# Altium integrated library Protel DOS Schematic Libraries.IntLib: 1273 symbols (part 2 of 9)
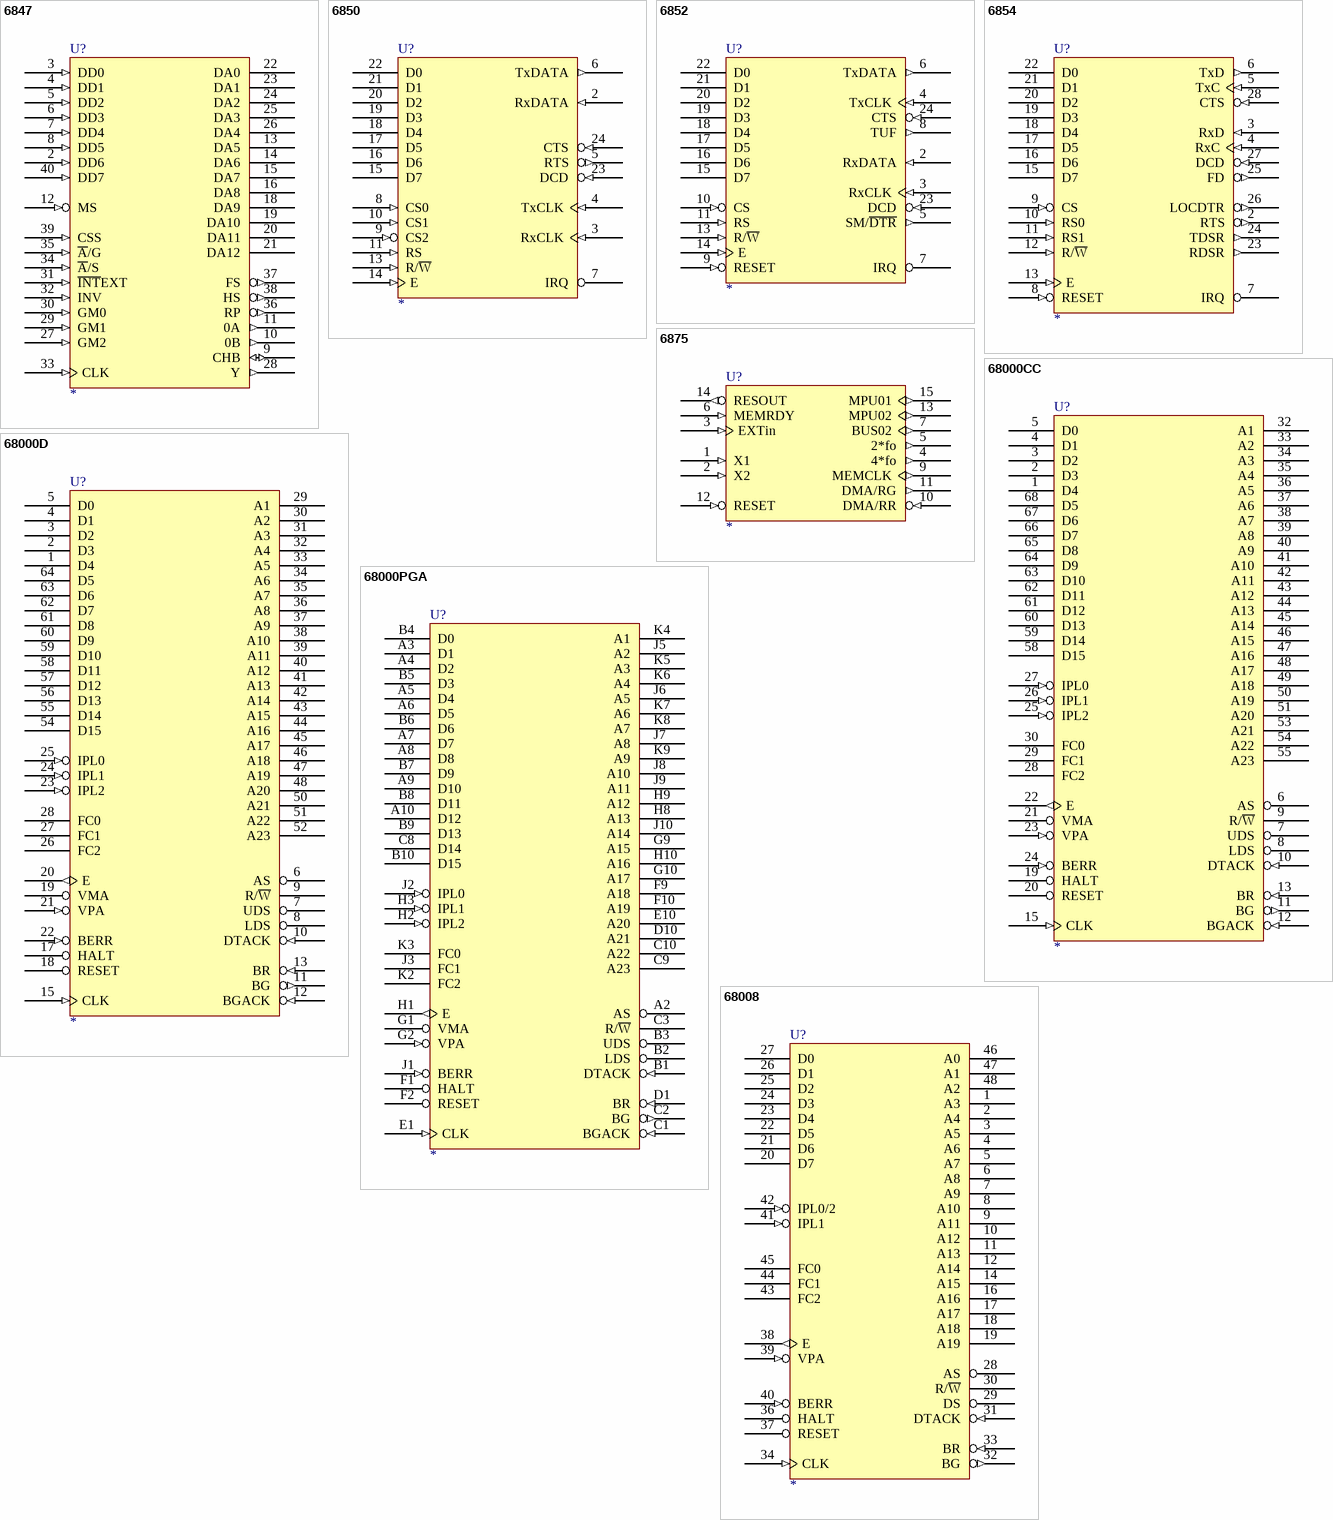
[diagram p70: symbols 6847 to 68008]

## 68000CC
designator U?
footprint JEDECA-68
pins: 1 D4 (hiz), 2 D3 (hiz), 3 D2 (hiz), 4 D1 (hiz), 5 D0 (hiz), 6 AS (hiz), 7 UDS (hiz), 8 LDS (hiz), 9 R/~{W} (hiz), 10 DTACK (in), 11 BG (out), 12 BGACK (in), 13 BR (in), 14 VCC (power) hidden to VCC, 15 CLK (in), 16 GND (power) hidden to GND, 17 GND (power) hidden to GND, 19 HALT (oc), 20 RESET (oc), 21 VMA (hiz), 22 E (out), 23 VPA (in), 24 BERR (in), 25 IPL2 (in), 26 IPL1 (in), 27 IPL0 (in), 28 FC2 (hiz), 29 FC1 (hiz), 30 FC0 (hiz), 32 A1 (hiz), 33 A2 (hiz), 34 A3 (hiz), 35 A4 (hiz), 36 A5 (hiz), 37 A6 (hiz), 38 A7 (hiz), 39 A8 (hiz), 40 A9 (hiz), 41 A10 (hiz), 42 A11 (hiz), 43 A12 (hiz), 44 A13 (hiz), 45 A14 (hiz), 46 A15 (hiz), 47 A16 (hiz), 48 A17 (hiz), 49 A18 (hiz), 50 A19 (hiz), 51 A20 (hiz), 52 VCC (power) hidden to VCC, 53 A21 (hiz), 54 A22 (hiz), 55 A23 (hiz), 56 GND (power) hidden to GND, 57 GND (power) hidden to GND, 58 D15 (hiz), 59 D14 (hiz), 60 D13 (hiz), 61 D12 (hiz), 62 D11 (hiz), 63 D10 (hiz), 64 D9 (hiz), 65 D8 (hiz), 66 D7 (hiz), 67 D6 (hiz), 68 D5 (hiz)

## 68000D
designator U?
footprint DIP-64
pins: 1 D4 (hiz), 2 D3 (hiz), 3 D2 (hiz), 4 D1 (hiz), 5 D0 (hiz), 6 AS (hiz), 7 UDS (hiz), 8 LDS (hiz), 9 R/~{W} (hiz), 10 DTACK (in), 11 BG (out), 12 BGACK (in), 13 BR (in), 14 VCC (power) hidden to VCC, 15 CLK (in), 16 GND (power) hidden to GND, 17 HALT (oc), 18 RESET (oc), 19 VMA (hiz), 20 E (out), 21 VPA (in), 22 BERR (in), 23 IPL2 (in), 24 IPL1 (in), 25 IPL0 (in), 26 FC2 (hiz), 27 FC1 (hiz), 28 FC0 (hiz), 29 A1 (hiz), 30 A2 (hiz), 31 A3 (hiz), 32 A4 (hiz), 33 A5 (hiz), 34 A6 (hiz), 35 A7 (hiz), 36 A8 (hiz), 37 A9 (hiz), 38 A10 (hiz), 39 A11 (hiz), 40 A12 (hiz), 41 A13 (hiz), 42 A14 (hiz), 43 A15 (hiz), 44 A16 (hiz), 45 A17 (hiz), 46 A18 (hiz), 47 A19 (hiz), 48 A20 (hiz), 49 VCC (power) hidden to VCC, 50 A21 (hiz), 51 A22 (hiz), 52 A23 (hiz), 53 GND (power) hidden to GND, 54 D15 (hiz), 55 D14 (hiz), 56 D13 (hiz), 57 D12 (hiz), 58 D11 (hiz), 59 D10 (hiz), 60 D9 (hiz), 61 D8 (hiz), 62 D7 (hiz), 63 D6 (hiz), 64 D5 (hiz)

## 68000PGA
designator U?
footprint PGA68_10X10
pins: A2 AS (hiz), A3 D1 (hiz), A4 D2 (hiz), A5 D4 (hiz), A6 D5 (hiz), A7 D7 (hiz), A8 D8 (hiz), A9 D10 (hiz), A10 D12 (hiz), B1 DTACK (in), B2 LDS (hiz), B3 UDS (hiz), B4 D0 (hiz), B5 D3 (hiz), B6 D6 (hiz), B7 D9 (hiz), B8 D11 (hiz), B9 D13 (hiz), B10 D15 (hiz), C1 BGACK (in), C2 BG (out), C3 R/~{W} (hiz), C8 D14 (hiz), C9 A23 (hiz), C10 A22 (hiz), D1 BR (in), D2 VCC (power) hidden to VCC, D9 GND (power) hidden to GND, D10 A21 (hiz), E1 CLK (in), E2 GND (power) hidden to GND, E9 VCC (power) hidden to VCC, E10 A20 (hiz), F1 HALT (oc), F2 RESET (oc), F9 A18 (hiz), F10 A19 (hiz), G1 VMA (hiz), G2 VPA (in), G9 A15 (hiz), G10 A17 (hiz), H1 E (out), H2 IPL2 (in), H3 IPL1 (in), H8 A13 (hiz), H9 A12 (hiz), H10 A16 (hiz), J1 BERR (in), J2 IPL0 (in), J3 FC1 (hiz), J5 A2 (hiz), J6 A5 (hiz), J7 A8 (hiz), J8 A10 (hiz), J9 A11 (hiz), J10 A14 (hiz), K2 FC2 (hiz), K3 FC0 (hiz), K4 A1 (hiz), K5 A3 (hiz), K6 A4 (hiz), K7 A6 (hiz), K8 A7 (hiz), K9 A9 (hiz)

## 68008
designator U?
footprint DIP-48
pins: 1 A3 (hiz), 2 A4 (hiz), 3 A5 (hiz), 4 A6 (hiz), 5 A7 (hiz), 6 A8 (hiz), 7 A9 (hiz), 8 A10 (hiz), 9 A11 (hiz), 10 A12 (hiz), 11 A13 (hiz), 12 A14 (hiz), 13 VCC (power) hidden to VCC, 14 A15 (hiz), 15 GND (power) hidden to GND, 16 A16 (hiz), 17 A17 (hiz), 18 A18 (hiz), 19 A19 (hiz), 20 D7 (hiz), 21 D6 (hiz), 22 D5 (hiz), 23 D4 (hiz), 24 D3 (hiz), 25 D2 (hiz), 26 D1 (hiz), 27 D0 (hiz), 28 AS (hiz), 29 DS (hiz), 30 R/~{W} (hiz), 31 DTACK (in), 32 BG (out), 33 BR (in), 34 CLK (in), 35 GND (power) hidden to GND, 36 HALT (oc), 37 RESET (oc), 38 E (out), 39 VPA (in), 40 BERR (in), 41 IPL1 (in), 42 IPL0/2 (in), 43 FC2 (hiz), 44 FC1 (hiz), 45 FC0 (hiz), 46 A0 (hiz), 47 A1 (hiz), 48 A2 (hiz)

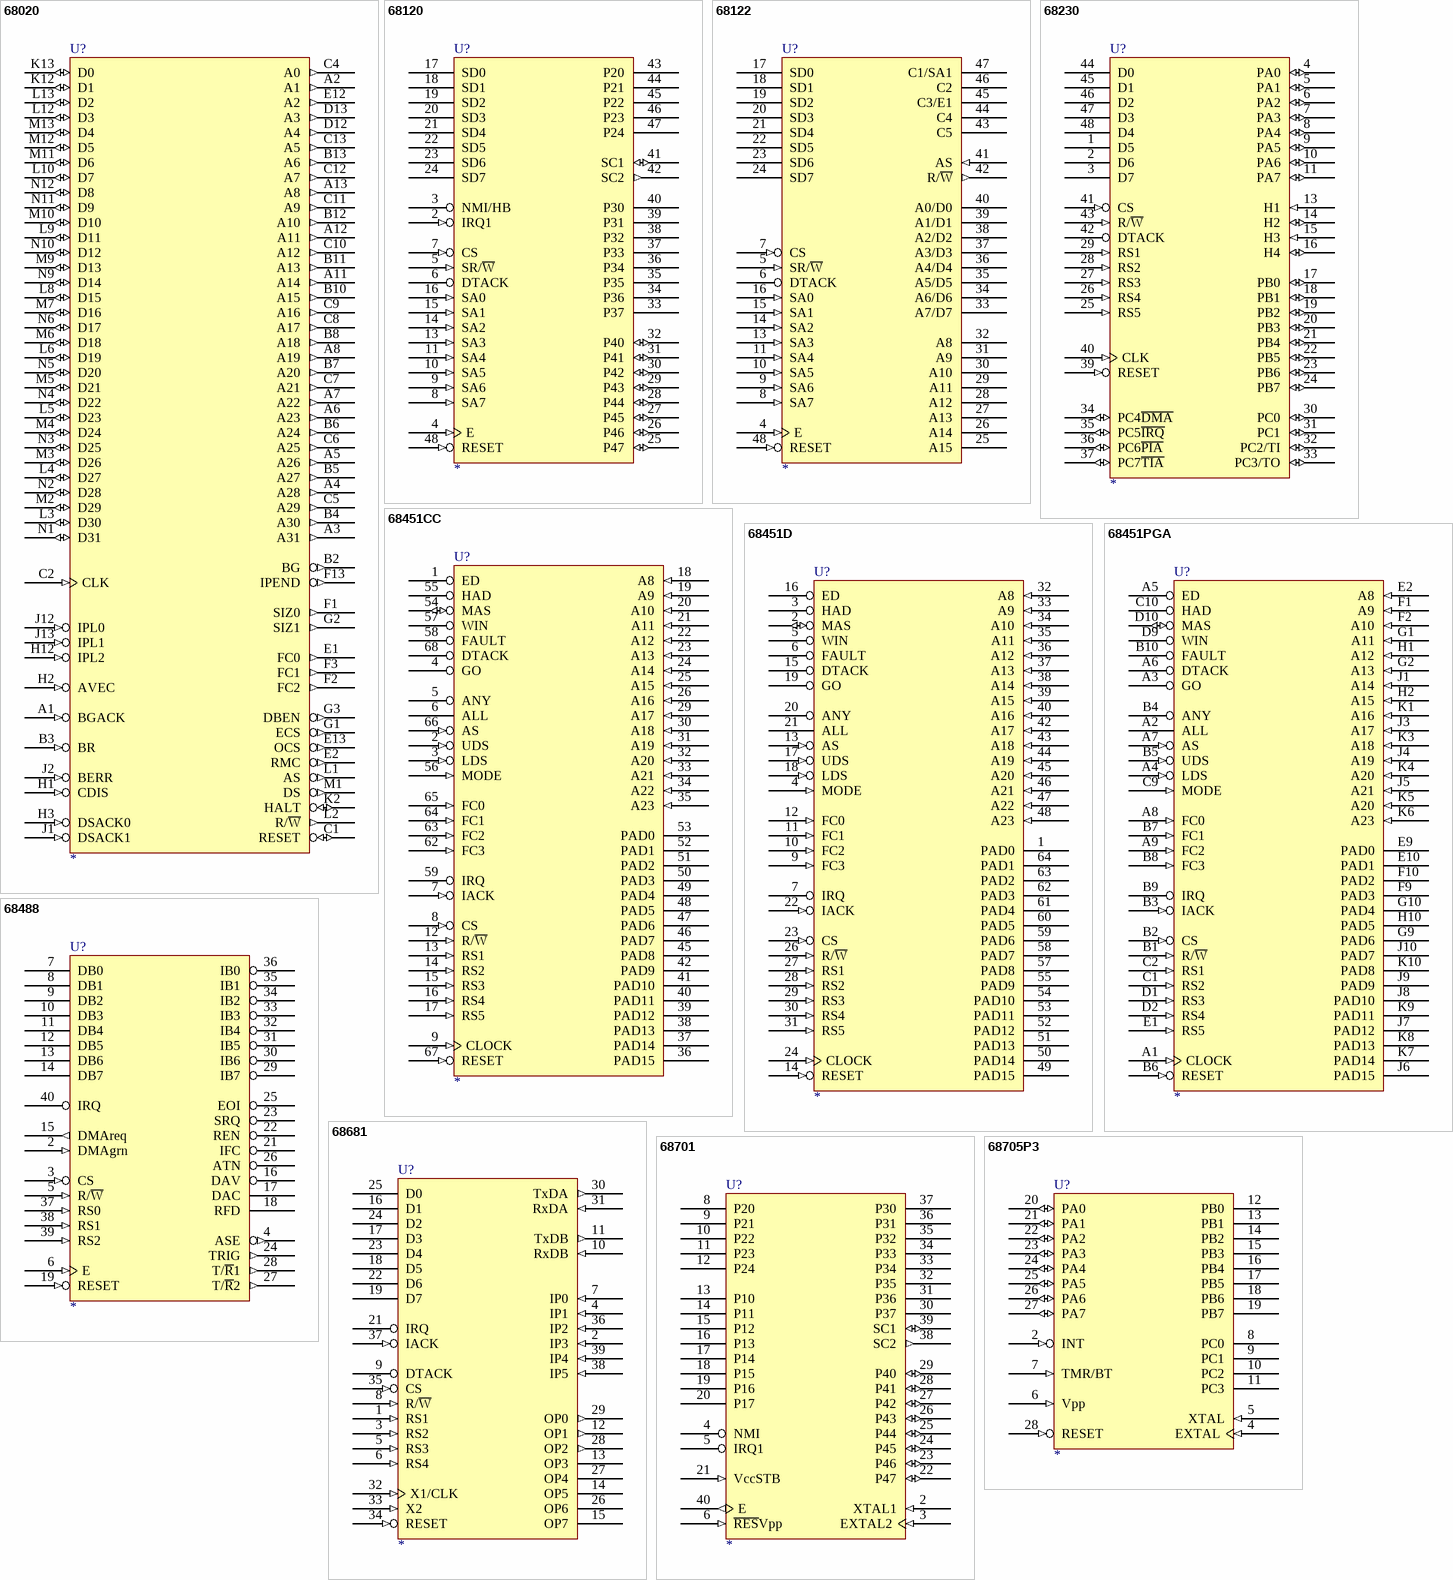
[diagram p10: symbols 68020 to 68705P3]

## 68020
designator U?
footprint PGA68_10X10
pins: A1 BGACK (in), A2 A1 (out), A3 A31 (out), A4 A28 (out), A5 A26 (out), A6 A23 (out), A7 A22 (out), A8 A19 (out), A9 VCC (power) hidden to VCC, A10 GND (power) hidden to GND, A11 A14 (out), A12 A11 (out), A13 A8 (out), B2 BG (out), B3 BR (in), B4 A30 (out), B5 A27 (out), B6 A24 (out), B7 A20 (out), B8 A18 (out), B9 GND (power) hidden to GND, B10 A15 (out), B11 A13 (out), B12 A10 (out), B13 A6 (out), C1 RESET (io), C2 CLK (in), C4 A0 (out), C5 A29 (out), C6 A25 (out), C7 A21 (out), C8 A17 (out), C9 A16 (out), C10 A12 (out), C11 A9 (out), C12 A7 (out), C13 A5 (out), D1 VCC (power) hidden to VCC, D2 VCC (power) hidden to VCC, D12 A4 (out), D13 A3 (out), E1 FC0 (out), E2 RMC (out), E3 VCC (power) hidden to VCC, E12 A2 (out), E13 OCS (out), F1 SIZ0 (out), F2 FC2 (out), F3 FC1 (out), F13 IPEND (out), G1 ECS (out), G2 SIZ1 (out), G3 DBEN (out), G11 VCC (power) hidden to VCC, G12 GND (power) hidden to GND, G13 VCC (power) hidden to VCC, H1 CDIS (in), H2 AVEC (in), H3 DSACK0 (in), H12 IPL2 (in), H13 GND (power) hidden to GND, J1 DSACK1 (in), J2 BERR (in), J3 GND (power) hidden to GND, J12 IPL0 (in), J13 IPL1 (in), K1 GND (power) hidden to GND, K2 HALT (io), K12 D1 (io), K13 D0 (io), L1 AS (out), L2 R/~{W} (out), L3 D30 (io), L4 D27 (io), L5 D23 (io), L6 D19 (io), L7 GND (power) hidden to GND, L8 D15 (io), L9 D11 (io), L10 D7 (io), L12 D3 (io), L13 D2 (io), M1 DS (out), M2 D29 (io), M3 D26 (io), M4 D24 (io), M5 D21 (io), M6 D18 (io), M7 D16 (io), M8 VCC (power) hidden to VCC, M9 D13 (io), M10 D10 (io), M11 D6 (io), M12 D5 (io), M13 D4 (io), N1 D31 (io), N2 D28 (io), N3 D25 (io), N4 D22 (io), N5 D20 (io), N6 D17 (io), N7 GND (power) hidden to GND, N8 VCC (power) hidden to VCC, N9 D14 (io), N10 D12 (io), N11 D9 (io), N12 D8 (io)

## 68120
designator U?
footprint DIP-48
pins: 1 GND (power) hidden to GND, 2 IRQ1 (in), 3 NMI/HB (oc), 4 E (in), 5 SR/~{W} (in), 6 DTACK (oc), 7 CS (in), 8 SA7 (in), 9 SA6 (in), 10 SA5 (in), 11 SA4 (in), 12 VCC (power) hidden to VCC, 13 SA3 (in), 14 SA2 (in), 15 SA1 (in), 16 SA0 (in), 17 SD0 (hiz), 18 SD1 (hiz), 19 SD2 (hiz), 20 SD3 (hiz), 21 SD4 (hiz), 22 SD5 (hiz), 23 SD6 (hiz), 24 SD7 (hiz), 25 P47 (io), 26 P46 (io), 27 P45 (io), 28 P44 (io), 29 P43 (io), 30 P42 (io), 31 P41 (io), 32 P40 (io), 33 P37 (hiz), 34 P36 (hiz), 35 P35 (hiz), 36 P34 (hiz), 37 P33 (hiz), 38 P32 (hiz), 39 P31 (hiz), 40 P30 (hiz), 41 SC1 (io), 42 SC2 (out), 43 P20 (hiz), 44 P21 (hiz), 45 P22 (hiz), 46 P23 (hiz), 47 P24 (hiz), 48 RESET (in)

## 68122
designator U?
footprint DIP-48
pins: 1 GND (power) hidden to GND, 2 VCC (power) hidden to VCC, 3 VCC (power) hidden to VCC, 4 E (in), 5 SR/~{W} (in), 6 DTACK (oc), 7 CS (in), 8 SA7 (in), 9 SA6 (in), 10 SA5 (in), 11 SA4 (in), 12 VCC (power) hidden to VCC, 13 SA3 (in), 14 SA2 (in), 15 SA1 (in), 16 SA0 (in), 17 SD0 (hiz), 18 SD1 (hiz), 19 SD2 (hiz), 20 SD3 (hiz), 21 SD4 (hiz), 22 SD5 (hiz), 23 SD6 (hiz), 24 SD7 (hiz), 25 A15 (hiz), 26 A14 (hiz), 27 A13 (hiz), 28 A12 (hiz), 29 A11 (hiz), 30 A10 (hiz), 31 A9 (hiz), 32 A8 (hiz), 33 A7/D7 (hiz), 34 A6/D6 (hiz), 35 A5/D5 (hiz), 36 A4/D4 (hiz), 37 A3/D3 (hiz), 38 A2/D2 (hiz), 39 A1/D1 (hiz), 40 A0/D0 (hiz), 41 AS (in), 42 R/~{W} (out), 43 C5 (hiz), 44 C4 (hiz), 45 C3/E1 (hiz), 46 C2 (hiz), 47 C1/SA1 (hiz), 48 RESET (in)

## 68230
designator U?
footprint DIP-48
pins: 1 D5 (hiz), 2 D6 (hiz), 3 D7 (hiz), 4 PA0 (io), 5 PA1 (io), 6 PA2 (io), 7 PA3 (io), 8 PA4 (io), 9 PA5 (io), 10 PA6 (io), 11 PA7 (io), 12 VCC (power) hidden to VCC, 13 H1 (in), 14 H2 (io), 15 H3 (in), 16 H4 (io), 17 PB0 (io), 18 PB1 (io), 19 PB2 (io), 20 PB3 (io), 21 PB4 (io), 22 PB5 (io), 23 PB6 (io), 24 PB7 (io), 25 RS5 (in), 26 RS4 (in), 27 RS3 (in), 28 RS2 (in), 29 RS1 (in), 30 PC0 (io), 31 PC1 (io), 32 PC2/TI (io), 33 PC3/TO (io), 34 PC4~{DMA} (io), 35 PC5~{IRQ} (io), 36 PC6~{PIA} (io), 37 PC7~{TIA} (io), 38 GND (power) hidden to GND, 39 RESET (in), 40 CLK (in), 41 CS (in), 42 DTACK (oc), 43 R/~{W} (in), 44 D0 (hiz), 45 D1 (hiz), 46 D2 (hiz), 47 D3 (hiz), 48 D4 (hiz)

## 68451CC
designator U?
footprint JEDECA-68
pins: 1 ED (hiz), 2 UDS (in), 3 LDS (in), 4 GO (oc), 5 ANY (oc), 6 ALL (oc), 7 IACK (in), 8 CS (in), 9 CLOCK (in), 10 VCC (power) hidden to VCC, 11 VCC (power) hidden to VCC, 12 R/~{W} (in), 13 RS1 (in), 14 RS2 (in), 15 RS3 (in), 16 RS4 (in), 17 RS5 (in), 18 A8 (in), 19 A9 (in), 20 A10 (in), 21 A11 (in), 22 A12 (in), 23 A13 (in), 24 A14 (in), 25 A15 (in), 26 A16 (in), 27 GND (power) hidden to GND, 28 GND (power) hidden to GND, 29 A17 (in), 30 A18 (in), 31 A19 (in), 32 A20 (in), 33 A21 (in), 34 A22 (in), 35 A23 (in), 36 PAD15 (hiz), 37 PAD14 (hiz), 38 PAD13 (hiz), 39 PAD12 (hiz), 40 PAD11 (hiz), 41 PAD10 (hiz), 42 PAD9 (hiz), 43 VCC (power) hidden to VCC, 44 VCC (power) hidden to VCC, 45 PAD8 (hiz), 46 PAD7 (hiz), 47 PAD6 (hiz), 48 PAD5 (hiz), 49 PAD4 (hiz), 50 PAD3 (hiz), 51 PAD2 (hiz), 52 PAD1 (hiz), 53 PAD0 (hiz), 54 MAS (io), 55 HAD (hiz), 56 MODE (in), 57 WIN (hiz), 58 FAULT (oc), 59 IRQ (oc), 60 GND (power) hidden to GND, 61 GND (power) hidden to GND, 62 FC3 (in), 63 FC2 (in), 64 FC1 (in), 65 FC0 (in), 66 AS (in), 67 RESET (in), 68 DTACK (hiz)

## 68451D
designator U?
footprint DIP-64
pins: 1 PAD0 (hiz), 2 MAS (io), 3 HAD (hiz), 4 MODE (in), 5 WIN (hiz), 6 FAULT (oc), 7 IRQ (oc), 8 GND (power) hidden to GND, 9 FC3 (in), 10 FC2 (in), 11 FC1 (in), 12 FC0 (in), 13 AS (in), 14 RESET (in), 15 DTACK (hiz), 16 ED (hiz), 17 UDS (in), 18 LDS (in), 19 GO (oc), 20 ANY (oc), 21 ALL (oc), 22 IACK (in), 23 CS (in), 24 CLOCK (in), 25 VCC (power) hidden to VCC, 26 R/~{W} (in), 27 RS1 (in), 28 RS2 (in), 29 RS3 (in), 30 RS4 (in), 31 RS5 (in), 32 A8 (in), 33 A9 (in), 34 A10 (in), 35 A11 (in), 36 A12 (in), 37 A13 (in), 38 A14 (in), 39 A15 (in), 40 A16 (in), 41 GND (power) hidden to GND, 42 A17 (in), 43 A18 (in), 44 A19 (in), 45 A20 (in), 46 A21 (in), 47 A22 (in), 48 A23 (in), 49 PAD15 (hiz), 50 PAD14 (hiz), 51 PAD13 (hiz), 52 PAD12 (hiz), 53 PAD11 (hiz), 54 PAD10 (hiz), 55 PAD9 (hiz), 56 VCC (power) hidden to VCC, 57 PAD8 (hiz), 58 PAD7 (hiz), 59 PAD6 (hiz), 60 PAD5 (hiz), 61 PAD4 (hiz), 62 PAD3 (hiz), 63 PAD2 (hiz), 64 PAD1 (hiz)

## 68451PGA
designator U?
footprint PGA68_10X10
pins: A1 CLOCK (in), A2 ALL (oc), A3 GO (oc), A4 LDS (in), A5 ED (hiz), A6 DTACK (hiz), A7 AS (in), A8 FC0 (in), A9 FC2 (in), A10 GND (power) hidden to GND, B1 R/~{W} (in), B2 CS (in), B3 IACK (in), B4 ANY (oc), B5 UDS (in), B6 RESET (in), B7 FC1 (in), B8 FC3 (in), B9 IRQ (oc), B10 FAULT (oc), C1 RS2 (in), C2 RS1 (in), C3 VCC (power) hidden to VCC, C8 GND (power) hidden to GND, C9 MODE (in), C10 HAD (hiz), D1 RS3 (in), D2 RS4 (in), D9 WIN (hiz), D10 MAS (io), E1 RS5 (in), E2 A8 (in), E9 PAD0 (hiz), E10 PAD1 (hiz), F1 A9 (in), F2 A10 (in), F9 PAD3 (hiz), F10 PAD2 (hiz), G1 A11 (in), G2 A13 (in), G9 PAD6 (hiz), G10 PAD4 (hiz), H1 A12 (in), H2 A15 (in), H3 GND (power) hidden to GND, H8 VCC (power) hidden to VCC, H9 VCC (power) hidden to VCC, H10 PAD5 (hiz), J1 A14 (in), J2 GND (power) hidden to GND, J3 A17 (in), J4 A19 (in), J5 A21 (in), J6 PAD15 (hiz), J7 PAD12 (hiz), J8 PAD10 (hiz), J9 PAD9 (hiz), J10 PAD7 (hiz), K1 A16 (in), K3 A18 (in), K4 A20 (in), K5 A20 (in), K6 A23 (in), K7 PAD14 (hiz), K8 PAD13 (hiz), K9 PAD11 (hiz), K10 PAD8 (hiz)

## 68488
designator U?
footprint DIP-40
pins: 1 GND (power) hidden to GND, 2 DMAgrn (in), 3 CS (in), 4 ASE (out), 5 R/~{W} (in), 6 E (in), 7 DB0 (hiz), 8 DB1 (hiz), 9 DB2 (hiz), 10 DB3 (hiz), 11 DB4 (hiz), 12 DB5 (hiz), 13 DB6 (hiz), 14 DB7 (hiz), 15 DMAreq (out), 16 DAV (hiz), 17 DAC (hiz), 18 RFD (hiz), 19 RESET (in), 20 VCC (power) hidden to VCC, 21 IFC (hiz), 22 REN (hiz), 23 SRQ (oc), 24 TRIG (out), 25 EOI (hiz), 26 ATN (hiz), 27 T/~{R}2 (out), 28 T/~{R}1 (out), 29 IB7 (hiz), 30 IB6 (hiz), 31 IB5 (hiz), 32 IB4 (hiz), 33 IB3 (hiz), 34 IB2 (hiz), 35 IB1 (hiz), 36 IB0 (hiz), 37 RS0 (in), 38 RS1 (in), 39 RS2 (in), 40 IRQ (oc)

## 68681
designator U?
footprint DIP-40
pins: 1 RS1 (in), 2 IP3 (in), 3 RS2 (in), 4 IP1 (in), 5 RS3 (in), 6 RS4 (in), 7 IP0 (in), 8 R/~{W} (in), 9 DTACK (hiz), 10 RxDB (in), 11 TxDB (out), 12 OP1 (out), 13 OP3 (oc), 14 OP5 (oc), 15 OP7 (oc), 16 D1 (hiz), 17 D3 (hiz), 18 D5 (hiz), 19 D7 (hiz), 20 GND (power) hidden to GND, 21 IRQ (oc), 22 D6 (hiz), 23 D4 (hiz), 24 D2 (hiz), 25 D0 (hiz), 26 OP6 (oc), 27 OP4 (oc), 28 OP2 (out), 29 OP0 (out), 30 TxDA (out), 31 RxDA (in), 32 X1/CLK (in), 33 X2 (in), 34 RESET (in), 35 CS (in), 36 IP2 (in), 37 IACK (in), 38 IP5 (in), 39 IP4 (in), 40 VCC (power) hidden to VCC

## 68701
designator U?
footprint DIP-40
pins: 1 GND (power) hidden to GND, 2 XTAL1 (in), 3 EXTAL2 (in), 4 NMI (oc), 5 IRQ1 (oc), 6 ~{RES}Vpp (in), 7 VCC (power) hidden to VCC, 8 P20 (hiz), 9 P21 (hiz), 10 P22 (hiz), 11 P23 (hiz), 12 P24 (hiz), 13 P10 (hiz), 14 P11 (hiz), 15 P12 (hiz), 16 P13 (hiz), 17 P14 (hiz), 18 P15 (hiz), 19 P16 (hiz), 20 P17 (hiz), 21 VccSTB (in), 22 P47 (io), 23 P46 (io), 24 P45 (io), 25 P44 (io), 26 P43 (io), 27 P42 (io), 28 P41 (io), 29 P40 (io), 30 P37 (hiz), 31 P36 (hiz), 32 P35 (hiz), 33 P34 (hiz), 34 P33 (hiz), 35 P32 (hiz), 36 P31 (hiz), 37 P30 (hiz), 38 SC2 (out), 39 SC1 (io), 40 E (out)

## 68705P3
designator U?
footprint DIP-28
pins: 1 GND (power) hidden to GND, 2 INT (in), 3 VCC (power) hidden to VCC, 4 EXTAL (in), 5 XTAL (in), 6 Vpp (in), 7 TMR/BT (in), 8 PC0 (hiz), 9 PC1 (hiz), 10 PC2 (hiz), 11 PC3 (hiz), 12 PB0 (hiz), 13 PB1 (hiz), 14 PB2 (hiz), 15 PB3 (hiz), 16 PB4 (hiz), 17 PB5 (hiz), 18 PB6 (hiz), 19 PB7 (hiz), 20 PA0 (io), 21 PA1 (io), 22 PA2 (io), 23 PA3 (io), 24 PA4 (io), 25 PA5 (io), 26 PA6 (io), 27 PA7 (io), 28 RESET (in)

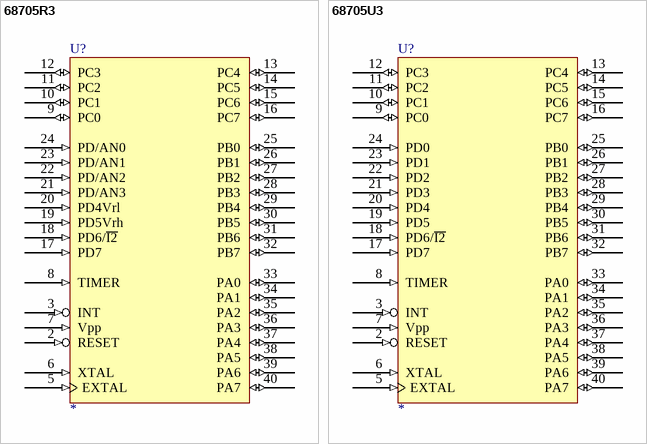
[diagram p11: symbols 68705R3 to 68705U3]

## 68705R3
designator U?
footprint DIP-40
pins: 1 GND (power) hidden to GND, 2 RESET (in), 3 INT (in), 4 VCC (power) hidden to VCC, 5 EXTAL (in), 6 XTAL (in), 7 Vpp (in), 8 TIMER (in), 9 PC0 (io), 10 PC1 (io), 11 PC2 (io), 12 PC3 (io), 13 PC4 (io), 14 PC5 (io), 15 PC6 (io), 16 PC7 (io), 17 PD7 (in), 18 PD6/~{I2} (in), 19 PD5Vrh (in), 20 PD4Vrl (in), 21 PD/AN3 (in), 22 PD/AN2 (in), 23 PD/AN1 (in), 24 PD/AN0 (in), 25 PB0 (io), 26 PB1 (io), 27 PB2 (io), 28 PB3 (io), 29 PB4 (io), 30 PB5 (io), 31 PB6 (io), 32 PB7 (io), 33 PA0 (io), 34 PA1 (io), 35 PA2 (io), 36 PA3 (io), 37 PA4 (io), 38 PA5 (io), 39 PA6 (io), 40 PA7 (io)

## 68705U3
designator U?
footprint DIP-40
pins: 1 GND (power) hidden to GND, 2 RESET (in), 3 INT (in), 4 VCC (power) hidden to VCC, 5 EXTAL (in), 6 XTAL (in), 7 Vpp (in), 8 TIMER (in), 9 PC0 (io), 10 PC1 (io), 11 PC2 (io), 12 PC3 (io), 13 PC4 (io), 14 PC5 (io), 15 PC6 (io), 16 PC7 (io), 17 PD7 (in), 18 PD6/~{I2} (in), 19 PD5 (in), 20 PD4 (in), 21 PD3 (in), 22 PD2 (in), 23 PD1 (in), 24 PD0 (in), 25 PB0 (io), 26 PB1 (io), 27 PB2 (io), 28 PB3 (io), 29 PB4 (io), 30 PB5 (io), 31 PB6 (io), 32 PB7 (io), 33 PA0 (io), 34 PA1 (io), 35 PA2 (io), 36 PA3 (io), 37 PA4 (io), 38 PA5 (io), 39 PA6 (io), 40 PA7 (io)


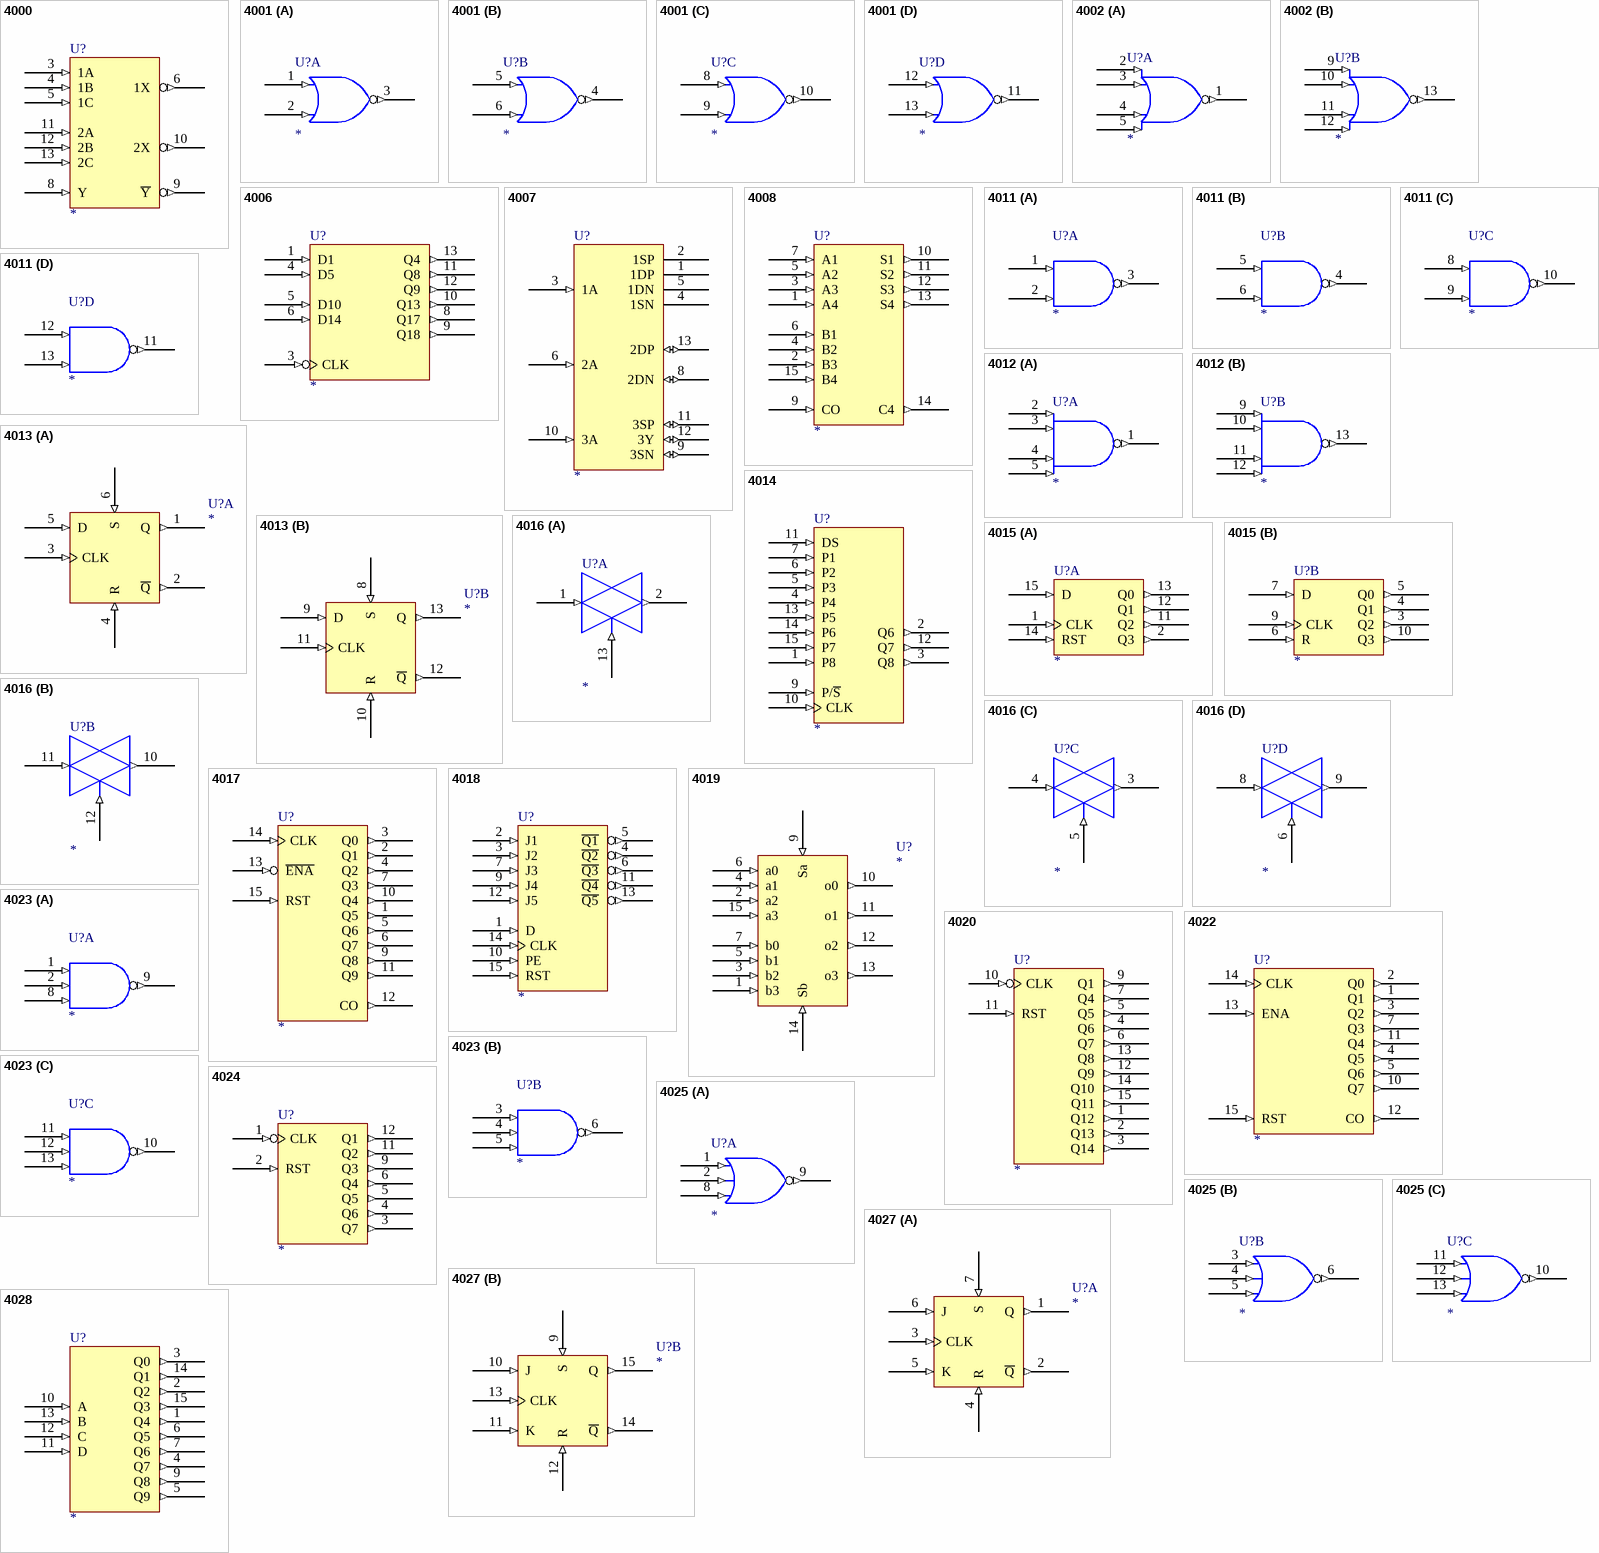
[diagram p12: symbols 4000 to 4028]

## 4000
designator U?
footprint DIP-14
pins: 3 1A (in), 4 1B (in), 5 1C (in), 6 1X (out), 7 GND (power) hidden to GND, 8 Y (in), 9 ~{Y} (out), 10 2X (out), 11 2A (in), 12 2B (in), 13 2C (in), 14 VCC (power) hidden to VCC

## 4001
designator U?
footprint DIP-14
part A pins: 1 (in), 2 (in), 3 (out), 7 GND (power) hidden to GND, 14 VCC (power) hidden to VCC
part B pins: 4 (out), 5 (in), 6 (in), 7 GND (power) hidden to GND, 14 VCC (power) hidden to VCC
part C pins: 7 GND (power) hidden to GND, 8 (in), 9 (in), 10 (out), 14 VCC (power) hidden to VCC
part D pins: 7 GND (power) hidden to GND, 11 (out), 12 (in), 13 (in), 14 VCC (power) hidden to VCC

## 4002
designator U?
footprint DIP-14
part A pins: 1 (out), 2 (in), 3 (in), 4 (in), 5 (in), 7 GND (power) hidden to GND, 14 VCC (power) hidden to VCC
part B pins: 7 GND (power) hidden to GND, 9 (in), 10 (in), 11 (in), 12 (in), 13 (out), 14 VCC (power) hidden to VCC

## 4006
designator U?
footprint DIP-14
pins: 1 D1 (in), 3 CLK (in), 4 D5 (in), 5 D10 (in), 6 D14 (in), 7 GND (power) hidden to GND, 8 Q17 (out), 9 Q18 (out), 10 Q13 (out), 11 Q8 (out), 12 Q9 (out), 13 Q4 (out), 14 VCC (power) hidden to VCC

## 4007
designator U?
footprint DIP-14
pins: 1 1DP (oc), 2 1SP (oc), 3 1A (in), 4 1SN (oc), 5 1DN (oc), 6 2A (in), 7 GND (in) hidden to GND, 8 2DN (io), 9 3SN (io), 10 3A (in), 11 3SP (io), 12 3Y (io), 13 2DP (io), 14 VCC (in) hidden to VCC

## 4008
designator U?
footprint DIP-16
pins: 1 A4 (in), 2 B3 (in), 3 A3 (in), 4 B2 (in), 5 A2 (in), 6 B1 (in), 7 A1 (in), 8 GND (power) hidden to GND, 9 CO (in), 10 S1 (out), 11 S2 (out), 12 S3 (out), 13 S4 (out), 14 C4 (out), 15 B4 (in), 16 VCC (power) hidden to VCC

## 4011
designator U?
footprint DIP-14
part A pins: 1 (in), 2 (in), 3 (out), 7 GND (power) hidden to GND, 14 VCC (power) hidden to VCC
part B pins: 4 (out), 5 (in), 6 (in), 7 GND (power) hidden to GND, 14 VCC (power) hidden to VCC
part C pins: 7 GND (power) hidden to GND, 8 (in), 9 (in), 10 (out), 14 VCC (power) hidden to VCC
part D pins: 7 GND (power) hidden to GND, 11 (out), 12 (in), 13 (in), 14 VCC (power) hidden to VCC

## 4012
designator U?
footprint DIP-14
part A pins: 1 (out), 2 (in), 3 (in), 4 (in), 5 (in), 7 GND (power) hidden to GND, 14 VCC (power) hidden to VCC
part B pins: 7 GND (power) hidden to GND, 9 (in), 10 (in), 11 (in), 12 (in), 13 (out), 14 VCC (power) hidden to VCC

## 4013
designator U?
footprint DIP-14
part A pins: 1 Q (out), 2 ~{Q} (out), 3 CLK (in), 4 R (in), 5 D (in), 6 S (in), 7 GND (power) hidden to GND, 14 VCC (power) hidden to VCC
part B pins: 7 GND (power) hidden to GND, 8 S (in), 9 D (in), 10 R (in), 11 CLK (in), 12 ~{Q} (out), 13 Q (out), 14 VCC (power) hidden to VCC

## 4014
designator U?
footprint DIP-16
pins: 1 P8 (in), 2 Q6 (out), 3 Q8 (out), 4 P4 (in), 5 P3 (in), 6 P2 (in), 7 P1 (in), 8 GND (power) hidden to GND, 9 P/~{S} (in), 10 CLK (in), 11 DS (in), 12 Q7 (out), 13 P5 (in), 14 P6 (in), 15 P7 (in), 16 VCC (power) hidden to VCC

## 4015
designator U?
footprint DIP-16
part A pins: 1 CLK (in), 2 Q3 (out), 8 GND (power) hidden to GND, 11 Q2 (out), 12 Q1 (out), 13 Q0 (out), 14 RST (in), 15 D (in), 16 VCC (power) hidden to VCC
part B pins: 3 Q2 (out), 4 Q1 (out), 5 Q0 (out), 6 R (in), 7 D (in), 8 GND (power) hidden to GND, 9 CLK (in), 10 Q3 (out), 16 VCC (power) hidden to VCC

## 4016
designator U?
footprint DIP-14
part A pins: 1 (in), 2 (out), 7 GND (power) hidden to GND, 13 (in), 14 VCC (power) hidden to VCC
part B pins: 7 GND (power) hidden to GND, 10 (out), 11 (in), 12 (in), 14 VCC (power) hidden to VCC
part C pins: 3 (out), 4 (in), 5 (in), 7 GND (power) hidden to GND, 14 VCC (power) hidden to VCC
part D pins: 6 (in), 7 GND (power) hidden to GND, 8 (in), 9 (out), 14 VCC (power) hidden to VCC

## 4017
designator U?
footprint DIP-16
pins: 1 Q5 (out), 2 Q1 (out), 3 Q0 (out), 4 Q2 (out), 5 Q6 (out), 6 Q7 (out), 7 Q3 (out), 8 GND (power) hidden to GND, 9 Q8 (out), 10 Q4 (out), 11 Q9 (out), 12 CO (out), 13 ~{ENA} (in), 14 CLK (in), 15 RST (in), 16 VCC (power) hidden to VCC

## 4018
designator U?
footprint DIP-16
pins: 1 D (in), 2 J1 (in), 3 J2 (in), 4 ~{Q2} (out), 5 ~{Q1} (out), 6 ~{Q3} (out), 7 J3 (in), 8 GND (power) hidden to GND, 9 J4 (in), 10 PE (in), 11 ~{Q4} (out), 12 J5 (in), 13 ~{Q5} (out), 14 CLK (in), 15 RST (in), 16 VCC (power) hidden to VCC

## 4019
designator U?
footprint DIP-16
pins: 1 b3 (in), 2 a2 (in), 3 b2 (in), 4 a1 (in), 5 b1 (in), 6 a0 (in), 7 b0 (in), 8 GND (power) hidden to GND, 9 Sa (in), 10 o0 (out), 11 o1 (out), 12 o2 (out), 13 o3 (out), 14 Sb (in), 15 a3 (in), 16 VCC (power) hidden to VCC

## 4020
designator U?
footprint DIP-16
pins: 1 Q12 (out), 2 Q13 (out), 3 Q14 (out), 4 Q6 (out), 5 Q5 (out), 6 Q7 (out), 7 Q4 (out), 8 GND (power) hidden to GND, 9 Q1 (out), 10 CLK (in), 11 RST (in), 12 Q9 (out), 13 Q8 (out), 14 Q10 (out), 15 Q11 (out), 16 VCC (power) hidden to VCC

## 4022
designator U?
footprint DIP-16
pins: 1 Q1 (out), 2 Q0 (out), 3 Q2 (out), 4 Q5 (out), 5 Q6 (out), 7 Q3 (out), 8 GND (power) hidden to GND, 10 Q7 (out), 11 Q4 (out), 12 CO (out), 13 ENA (in), 14 CLK (in), 15 RST (in), 16 VCC (power) hidden to VCC

## 4023
designator U?
footprint DIP-14
part A pins: 1 (in), 2 (in), 7 GND (power) hidden to GND, 8 (in), 9 (out), 14 VCC (power) hidden to VCC
part B pins: 3 (in), 4 (in), 5 (in), 6 (out), 7 GND (power) hidden to GND, 14 VCC (power) hidden to VCC
part C pins: 7 GND (power) hidden to GND, 10 (out), 11 (in), 12 (in), 13 (in), 14 VCC (power) hidden to VCC

## 4024
designator U?
footprint DIP-14
pins: 1 CLK (in), 2 RST (in), 3 Q7 (out), 4 Q6 (out), 5 Q5 (out), 6 Q4 (out), 7 GND (power) hidden to GND, 9 Q3 (out), 11 Q2 (out), 12 Q1 (out), 14 VCC (power) hidden to VCC

## 4025
designator U?
footprint DIP-14
part A pins: 1 (in), 2 (in), 7 GND (power) hidden to GND, 8 (in), 9 (out), 14 VCC (power) hidden to VCC
part B pins: 3 (in), 4 (in), 5 (in), 6 (out), 7 GND (power) hidden to GND, 14 VCC (power) hidden to VCC
part C pins: 7 GND (power) hidden to GND, 10 (out), 11 (in), 12 (in), 13 (in), 14 VCC (power) hidden to VCC

## 4027
designator U?
footprint DIP-16
part A pins: 1 Q (out), 2 ~{Q} (out), 3 CLK (in), 4 R (in), 5 K (in), 6 J (in), 7 S (in), 16 VCC (power) hidden to VCC
part B pins: 9 S (in), 10 J (in), 11 K (in), 12 R (in), 13 CLK (in), 14 ~{Q} (out), 15 Q (out), 16 VCC (power) hidden to VCC

## 4028
designator U?
footprint DIP-16
pins: 1 Q4 (out), 2 Q2 (out), 3 Q0 (out), 4 Q7 (out), 5 Q9 (out), 6 Q5 (out), 7 Q6 (out), 8 GND (power) hidden to GND, 9 Q8 (out), 10 A (in), 11 D (in), 12 C (in), 13 B (in), 14 Q1 (out), 15 Q3 (out), 16 VCC (power) hidden to VCC

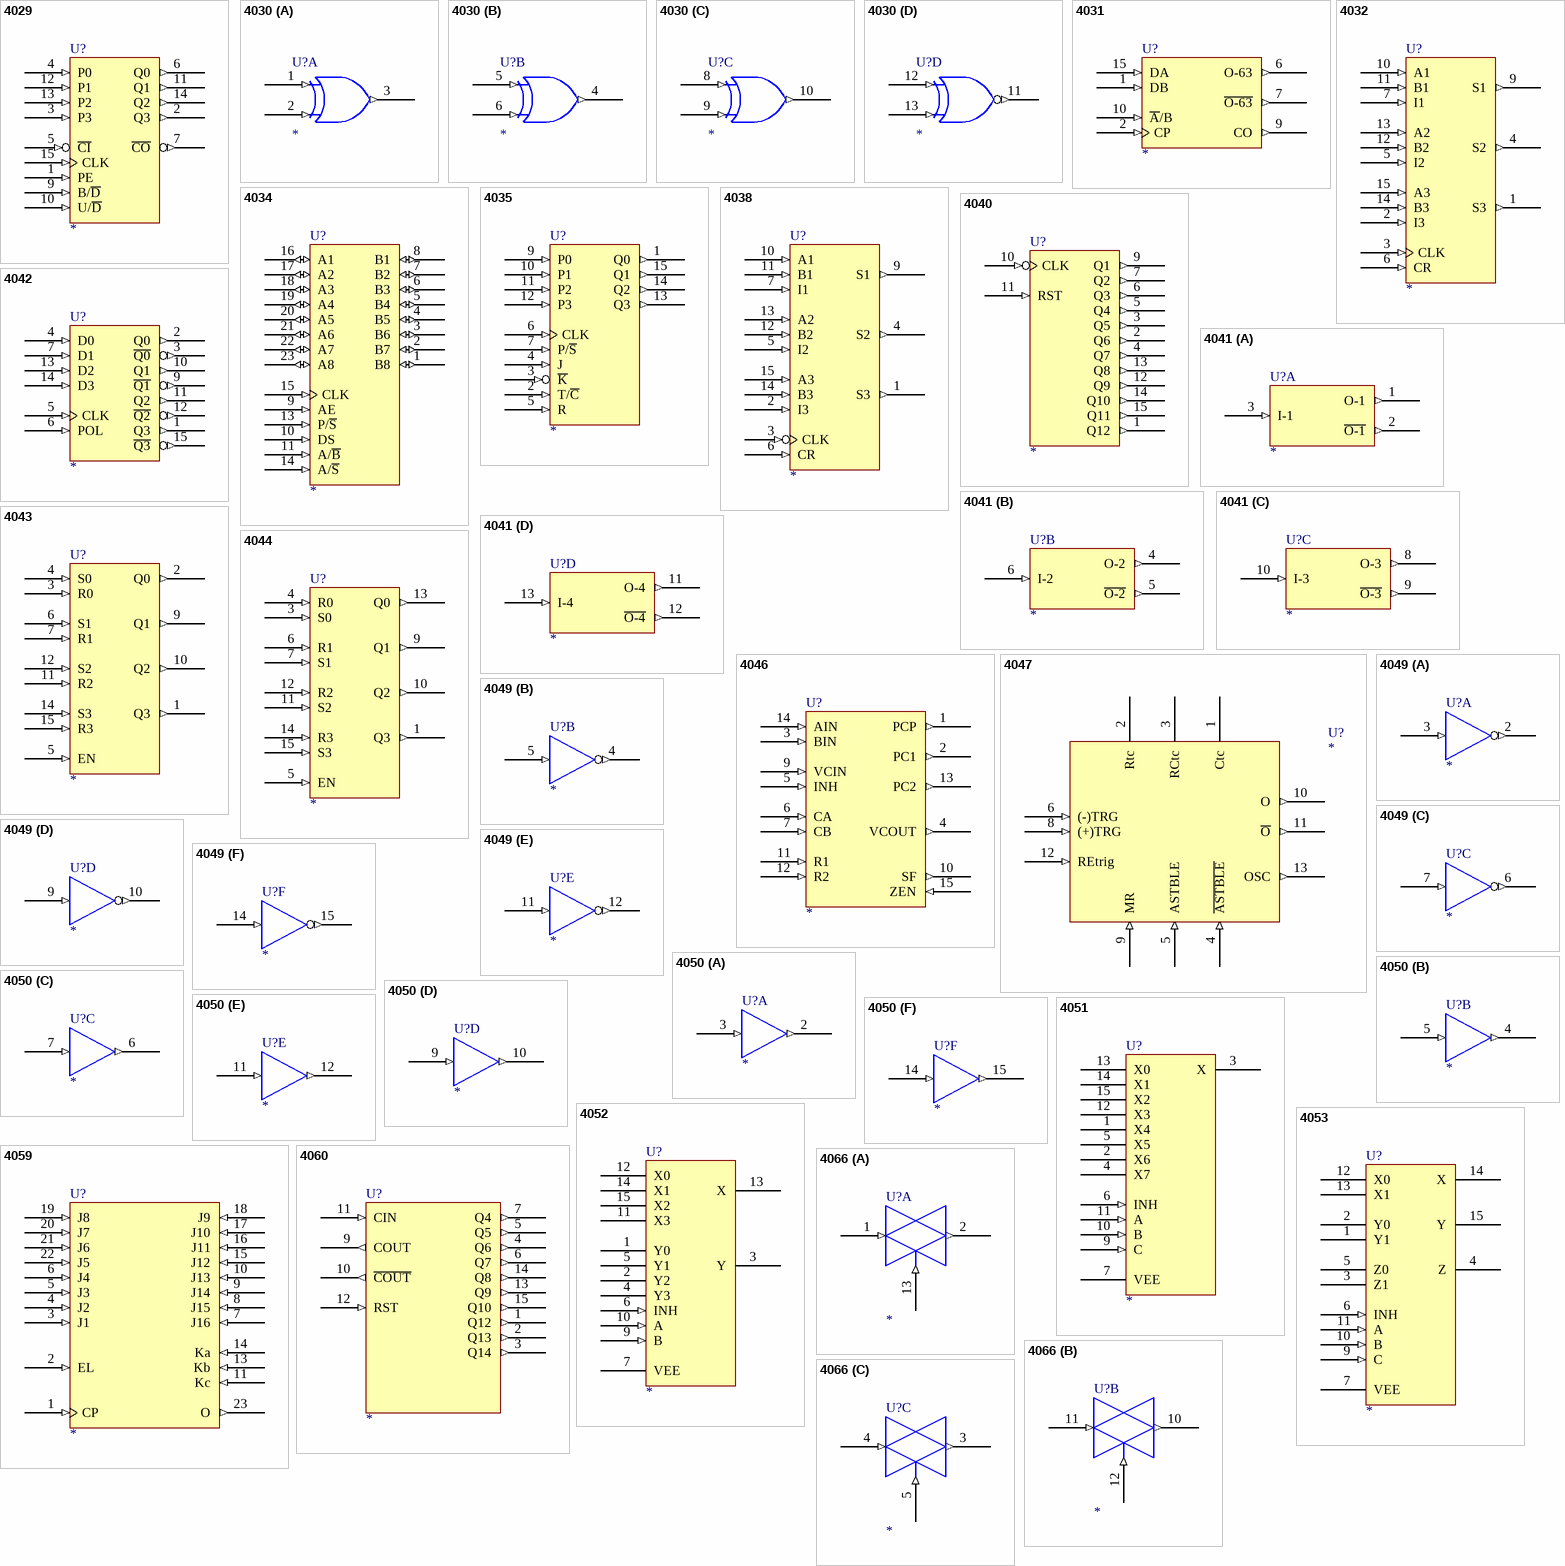
[diagram p13: symbols 4029 to 4066]

## 4029
designator U?
footprint DIP-16
pins: 1 PE (in), 2 Q3 (out), 3 P3 (in), 4 P0 (in), 5 ~{CI} (in), 6 Q0 (out), 7 ~{CO} (out), 8 GND (power) hidden to GND, 9 B/~{D} (in), 10 U/~{D} (in), 11 Q1 (out), 12 P1 (in), 13 P2 (in), 14 Q2 (out), 15 CLK (in), 16 VCC (power) hidden to VCC

## 4030
designator U?
footprint DIP-14
part A pins: 1 (in), 2 (in), 3 (out), 7 GND (power) hidden to GND, 14 VCC (power) hidden to VCC
part B pins: 4 (out), 5 (in), 6 (in), 7 GND (power) hidden to GND, 14 VCC (power) hidden to VCC
part C pins: 7 GND (power) hidden to GND, 8 (in), 9 (in), 10 (out), 14 VCC (power) hidden to VCC
part D pins: 7 GND (power) hidden to GND, 11 (out), 12 (in), 13 (in), 14 VCC (power) hidden to VCC

## 4031
designator U?
footprint DIP-16
pins: 1 DB (in), 2 CP (in), 6 O-63 (out), 7 ~{O-63} (out), 8 GND (power) hidden to GND, 9 CO (out), 10 ~{A}/B (in), 15 DA (in), 16 VCC (power) hidden to VCC

## 4032
designator U?
footprint DIP-16
pins: 1 S3 (out), 2 I3 (in), 3 CLK (in), 4 S2 (out), 5 I2 (in), 6 CR (in), 7 I1 (in), 8 GND (power) hidden to GND, 9 S1 (out), 10 A1 (in), 11 B1 (in), 12 B2 (in), 13 A2 (in), 14 B3 (in), 15 A3 (in), 16 VCC (power) hidden to VCC

## 4034
designator U?
footprint DIP-24
pins: 1 B8 (io), 2 B7 (io), 3 B6 (io), 4 B5 (io), 5 B4 (io), 6 B3 (io), 7 B2 (io), 8 B1 (io), 9 AE (in), 10 DS (in), 11 A/~{B} (in), 12 GND (power) hidden to GND, 13 P/~{S} (in), 14 A/~{S} (in), 15 CLK (in), 16 A1 (io), 17 A2 (io), 18 A3 (io), 19 A4 (io), 20 A5 (io), 21 A6 (io), 22 A7 (io), 23 A8 (io), 24 VCC (power) hidden to VCC

## 4035
designator U?
footprint DIP-16
pins: 1 Q0 (out), 2 T/~{C} (in), 3 ~{K} (in), 4 J (in), 5 R (in), 6 CLK (in), 7 P/~{S} (in), 8 GND (power) hidden to GND, 9 P0 (in), 10 P1 (in), 11 P2 (in), 12 P3 (in), 13 Q3 (out), 14 Q2 (out), 15 Q1 (out), 16 VCC (power) hidden to VCC

## 4038
designator U?
footprint DIP-16
pins: 1 S3 (out), 2 I3 (in), 3 CLK (in), 4 S2 (out), 5 I2 (in), 6 CR (in), 7 I1 (in), 8 GND (power) hidden to GND, 9 S1 (out), 10 A1 (in), 11 B1 (in), 12 B2 (in), 13 A2 (in), 14 B3 (in), 15 A3 (in), 16 VCC (power) hidden to VCC

## 4040
designator U?
footprint DIP-16
pins: 1 Q12 (out), 2 Q6 (out), 3 Q5 (out), 4 Q7 (out), 5 Q4 (out), 6 Q3 (out), 7 Q2 (out), 8 GND (power) hidden to GND, 9 Q1 (out), 10 CLK (in), 11 RST (in), 12 Q9 (out), 13 Q8 (out), 14 Q10 (out), 15 Q11 (out), 16 VCC (power) hidden to VCC

## 4041
designator U?
footprint DIP-14
part A pins: 1 O-1 (out), 2 ~{O-1} (out), 3 I-1 (in), 7 GND (power) hidden to GND, 14 VCC (power) hidden to VCC
part B pins: 4 O-2 (out), 5 ~{O-2} (out), 6 I-2 (in), 7 GND (power) hidden to GND, 14 VCC (power) hidden to VCC
part C pins: 7 GND (power) hidden to GND, 8 O-3 (out), 9 ~{O-3} (out), 10 I-3 (in), 14 VCC (power) hidden to VCC
part D pins: 7 GND (power) hidden to GND, 11 O-4 (out), 12 ~{O-4} (out), 13 I-4 (in), 14 VCC (power) hidden to VCC

## 4042
designator U?
footprint DIP-16
pins: 1 Q3 (out), 2 Q0 (out), 3 ~{Q0} (out), 4 D0 (in), 5 CLK (in), 6 POL (in), 7 D1 (in), 8 GND (power) hidden to GND, 9 ~{Q1} (out), 10 Q1 (out), 11 Q2 (out), 12 ~{Q2} (out), 13 D2 (in), 14 D3 (in), 15 ~{Q3} (out), 16 VCC (power) hidden to VCC

## 4043
designator U?
footprint DIP-16
pins: 1 Q3 (out), 2 Q0 (out), 3 R0 (in), 4 S0 (in), 5 EN (in), 6 S1 (in), 7 R1 (in), 8 GND (power) hidden to GND, 9 Q1 (out), 10 Q2 (out), 11 R2 (in), 12 S2 (in), 14 S3 (in), 15 R3 (in), 16 VCC (power) hidden to VCC

## 4044
designator U?
footprint DIP-16
pins: 1 Q3 (out), 3 S0 (in), 4 R0 (in), 5 EN (in), 6 R1 (in), 7 S1 (in), 8 GND (power) hidden to GND, 9 Q1 (out), 10 Q2 (out), 11 S2 (in), 12 R2 (in), 13 Q0 (out), 14 R3 (in), 15 S3 (in), 16 VCC (power) hidden to VCC

## 4046
designator U?
footprint DIP-16
pins: 1 PCP (out), 2 PC1 (out), 3 BIN (in), 4 VCOUT (out), 5 INH (in), 6 CA (in), 7 CB (in), 8 GND (power) hidden to GND, 9 VCIN (in), 10 SF (out), 11 R1 (in), 12 R2 (in), 13 PC2 (out), 14 AIN (in), 15 ZEN (in), 16 VCC (power) hidden to VCC

## 4047
designator U?
footprint DIP-14
pins: 1 Ctc, 2 Rtc, 3 RCtc, 4 ~{ASTBLE} (in), 5 ASTBLE (in), 6 (-)TRG (in), 7 GND (power) hidden to GND, 8 (+)TRG (in), 9 MR (in), 10 O (out), 11 ~{O} (out), 12 REtrig (in), 13 OSC (out), 14 VCC (power) hidden to VCC

## 4049
designator U?
footprint DIP-16
part A pins: 1 VCC (power) hidden to VCC, 2 (out), 3 (in), 8 GND (power) hidden to GND
part B pins: 1 VCC (power) hidden to VCC, 4 (out), 5 (in), 8 GND (power) hidden to GND
part C pins: 1 VCC (power) hidden to VCC, 6 (out), 7 (in), 8 GND (power) hidden to GND
part D pins: 1 VCC (power) hidden to VCC, 8 GND (power) hidden to GND, 9 (in), 10 (out)
part E pins: 1 VCC (power) hidden to VCC, 8 GND (power) hidden to GND, 11 (in), 12 (out)
part F pins: 1 VCC (power) hidden to VCC, 8 GND (power) hidden to GND, 14 (in), 15 (out)

## 4050
designator U?
footprint DIP-16
part A pins: 1 VCC (power) hidden to VCC, 2 (out), 3 (in), 8 GND (power) hidden to GND
part B pins: 1 VCC (power) hidden to VCC, 4 (out), 5 (in), 8 GND (power) hidden to GND
part C pins: 1 VCC (power) hidden to VCC, 6 (out), 7 (in), 8 GND (power) hidden to GND
part D pins: 1 VCC (power) hidden to VCC, 8 GND (power) hidden to GND, 9 (in), 10 (out)
part E pins: 1 VCC (power) hidden to VCC, 8 GND (power) hidden to GND, 11 (in), 12 (out)
part F pins: 1 VCC (power) hidden to VCC, 8 GND (power) hidden to GND, 14 (in), 15 (out)

## 4051
designator U?
footprint DIP-16
pins: 1 X4, 2 X6, 3 X, 4 X7, 5 X5, 6 INH (in), 7 VEE, 8 GND (power) hidden to GND, 9 C (in), 10 B (in), 11 A (in), 12 X3, 13 X0, 14 X1, 15 X2, 16 VCC (power) hidden to VCC

## 4052
designator U?
footprint DIP-16
pins: 1 Y0, 2 Y2, 3 Y, 4 Y3, 5 Y1, 6 INH (in), 7 VEE, 8 GND (power) hidden to GND, 9 B (in), 10 A (in), 11 X3, 12 X0, 13 X, 14 X1, 15 X2, 16 VCC (power) hidden to VCC

## 4053
designator U?
footprint DIP-16
pins: 1 Y1, 2 Y0, 3 Z1, 4 Z, 5 Z0, 6 INH (in), 7 VEE, 8 GND (power) hidden to GND, 9 C (in), 10 B (in), 11 A (in), 12 X0, 13 X1, 14 X, 15 Y, 16 VCC (power) hidden to VCC

## 4059
designator U?
footprint DIP-24
pins: 1 CP (in), 2 EL (in), 3 J1 (in), 4 J2 (in), 5 J3 (in), 6 J4 (in), 7 J16 (in), 8 J15 (in), 9 J14 (in), 10 J13 (in), 11 Kc (in), 12 GND (power) hidden to GND, 13 Kb (in), 14 Ka (in), 15 J12 (in), 16 J11 (in), 17 J10 (in), 18 J9 (in), 19 J8 (in), 20 J7 (in), 21 J6 (in), 22 J5 (in), 23 O (out), 24 VCC (power) hidden to VCC

## 4060
designator U?
footprint DIP-16
pins: 1 Q12 (out), 2 Q13 (out), 3 Q14 (out), 4 Q6 (out), 5 Q5 (out), 6 Q7 (out), 7 Q4 (out), 8 GND (power) hidden to GND, 9 COUT (out), 10 ~{COUT} (out), 11 CIN (in), 12 RST (in), 13 Q9 (out), 14 Q8 (out), 15 Q10 (out), 16 VCC (power) hidden to VCC

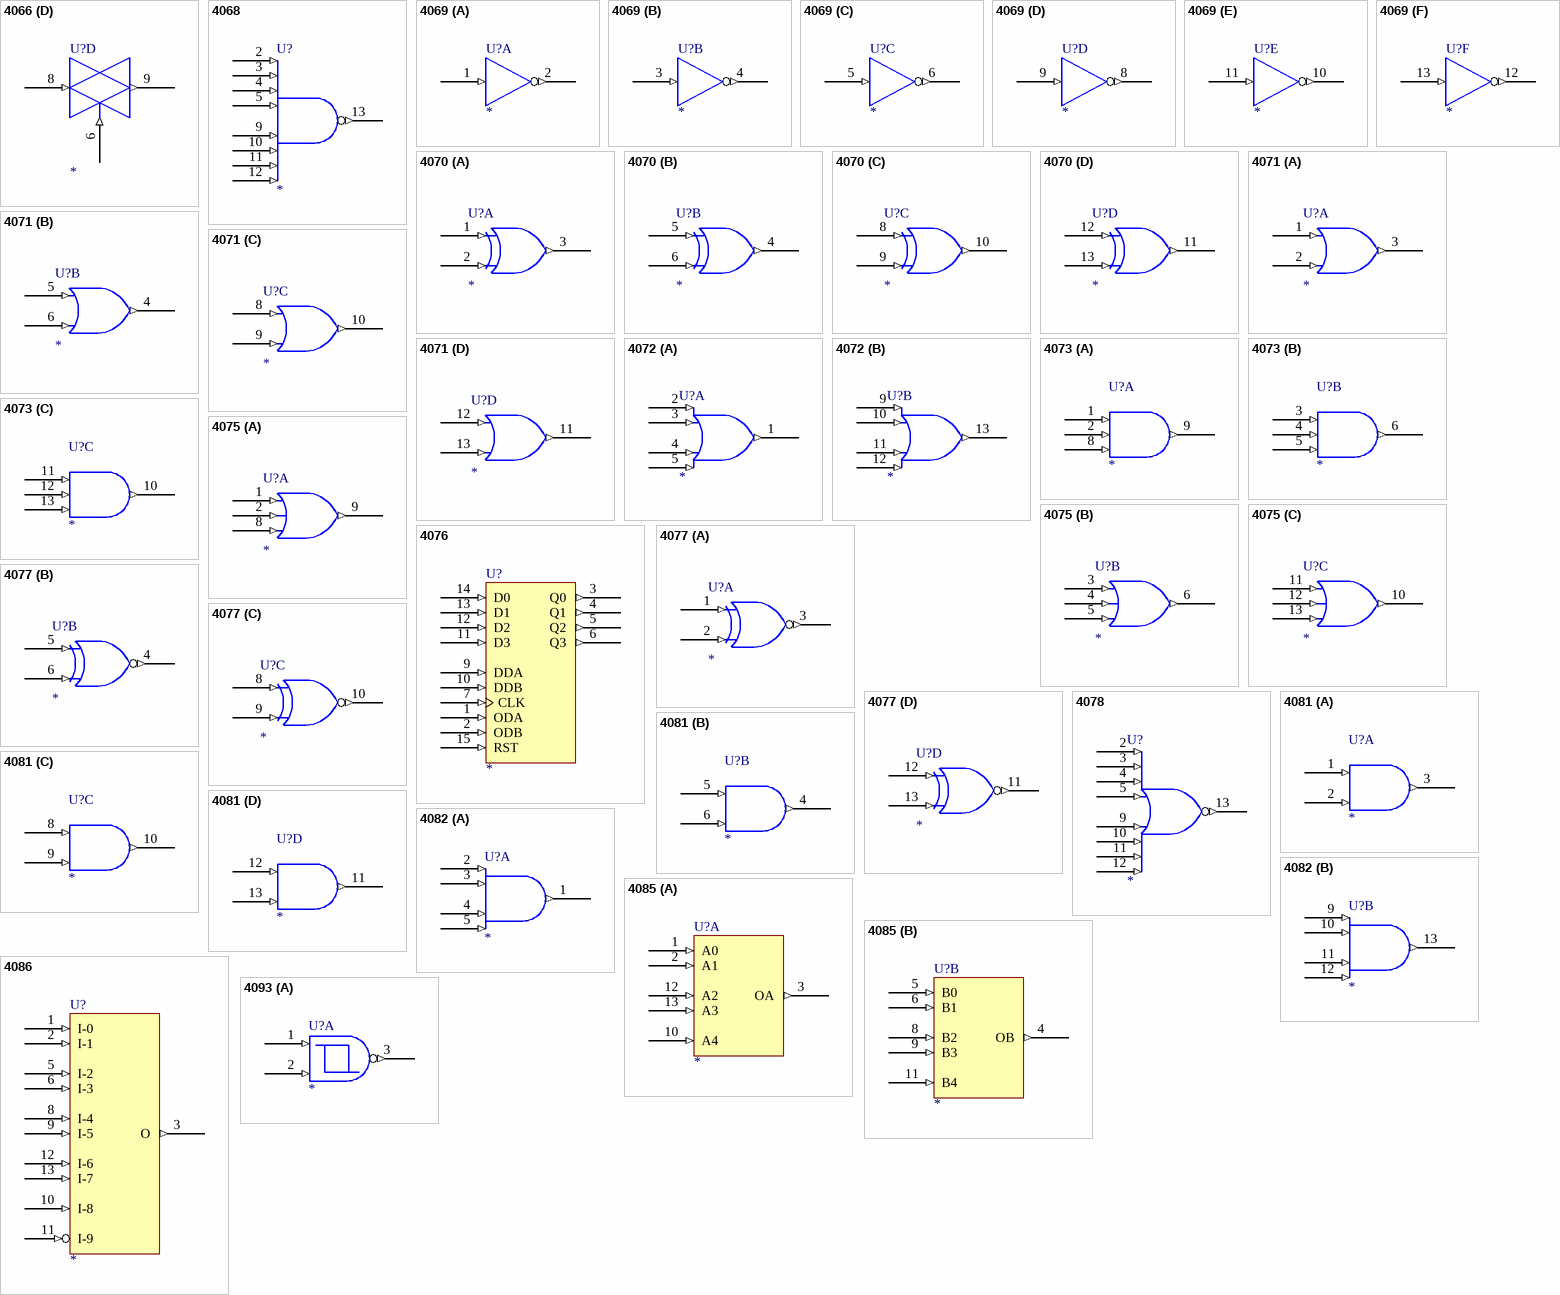
[diagram p14: symbols 4066 to 4093]

## 4066
designator U?
footprint DIP-14
part A pins: 1 (in), 2 (out), 7 GND (power) hidden to GND, 13 (in), 14 VCC (power) hidden to VCC
part B pins: 7 GND (power) hidden to GND, 10 (out), 11 (in), 12 (in), 14 VCC (power) hidden to VCC
part C pins: 3 (out), 4 (in), 5 (in), 7 GND (power) hidden to GND, 14 VCC (power) hidden to VCC
part D pins: 6 (in), 7 GND (power) hidden to GND, 8 (in), 9 (out), 14 VCC (power) hidden to VCC

## 4068
designator U?
footprint DIP-14
pins: 2 (in), 3 (in), 4 (in), 5 (in), 7 GND (power) hidden to GND, 9 (in), 10 (in), 11 (in), 12 (in), 13 (out), 14 VCC (power) hidden to VCC

## 4069
designator U?
footprint DIP-14
part A pins: 1 (in), 2 (out), 7 GND (power) hidden to GND, 14 VCC (power) hidden to VCC
part B pins: 3 (in), 4 (out), 7 GND (power) hidden to GND, 14 VCC (power) hidden to VCC
part C pins: 5 (in), 6 (out), 7 GND (power) hidden to GND, 14 VCC (power) hidden to VCC
part D pins: 7 GND (power) hidden to GND, 8 (out), 9 (in), 14 VCC (power) hidden to VCC
part E pins: 7 GND (power) hidden to GND, 10 (out), 11 (in), 14 VCC (power) hidden to VCC
part F pins: 7 GND (power) hidden to GND, 12 (out), 13 (in), 14 VCC (power) hidden to VCC

## 4070
designator U?
footprint DIP-14
part A pins: 1 (in), 2 (in), 3 (out), 7 GND (power) hidden to GND, 14 VCC (power) hidden to VCC
part B pins: 4 (out), 5 (in), 6 (in), 7 GND (power) hidden to GND, 14 VCC (power) hidden to VCC
part C pins: 7 GND (power) hidden to GND, 8 (in), 9 (in), 10 (out), 14 VCC (power) hidden to VCC
part D pins: 7 GND (power) hidden to GND, 11 (out), 12 (in), 13 (in), 14 VCC (power) hidden to VCC

## 4071
designator U?
footprint DIP-14
part A pins: 1 (in), 2 (in), 3 (out), 7 GND (power) hidden to GND, 14 VCC (power) hidden to VCC
part B pins: 4 (out), 5 (in), 6 (in), 7 GND (power) hidden to GND, 14 VCC (power) hidden to VCC
part C pins: 7 GND (power) hidden to GND, 8 (in), 9 (in), 10 (out), 14 VCC (power) hidden to VCC
part D pins: 7 GND (power) hidden to GND, 11 (out), 12 (in), 13 (in), 14 VCC (power) hidden to VCC

## 4072
designator U?
footprint DIP-14
part A pins: 1 (out), 2 (in), 3 (in), 4 (in), 5 (in), 7 GND (power) hidden to GND, 14 VCC (power) hidden to VCC
part B pins: 7 GND (power) hidden to GND, 9 (in), 10 (in), 11 (in), 12 (in), 13 (out), 14 VCC (power) hidden to VCC

## 4073
designator U?
footprint DIP-14
part A pins: 1 (in), 2 (in), 7 GND (power) hidden to GND, 8 (in), 9 (out), 14 VCC (power) hidden to VCC
part B pins: 3 (in), 4 (in), 5 (in), 6 (out), 7 GND (power) hidden to GND, 14 VCC (power) hidden to VCC
part C pins: 7 GND (power) hidden to GND, 10 (out), 11 (in), 12 (in), 13 (in), 14 VCC (power) hidden to VCC

## 4075
designator U?
footprint DIP-14
part A pins: 1 (in), 2 (in), 7 GND (power) hidden to GND, 8 (in), 9 (out), 14 VCC (power) hidden to VCC
part B pins: 3 (in), 4 (in), 5 (in), 6 (out), 7 GND (power) hidden to GND, 14 VCC (power) hidden to VCC
part C pins: 7 GND (power) hidden to GND, 10 (out), 11 (in), 12 (in), 13 (in), 14 VCC (power) hidden to VCC

## 4076
designator U?
footprint DIP-16
pins: 1 ODA (in), 2 ODB (in), 3 Q0 (out), 4 Q1 (out), 5 Q2 (out), 6 Q3 (out), 7 CLK (in), 8 GND (power) hidden to GND, 9 DDA (in), 10 DDB (in), 11 D3 (in), 12 D2 (in), 13 D1 (in), 14 D0 (in), 15 RST (in), 16 VCC (power) hidden to VCC

## 4077
designator U?
footprint DIP-14
part A pins: 1 (in), 2 (in), 3 (out), 7 GND (power) hidden to GND, 14 VCC (power) hidden to VCC
part B pins: 4 (out), 5 (in), 6 (in), 7 GND (power) hidden to GND, 14 VCC (power) hidden to VCC
part C pins: 7 GND (power) hidden to GND, 8 (in), 9 (in), 10 (out), 14 VCC (power) hidden to VCC
part D pins: 7 GND (power) hidden to GND, 11 (out), 12 (in), 13 (in), 14 VCC (power) hidden to VCC

## 4078
designator U?
footprint DIP-14
pins: 2 (in), 3 (in), 4 (in), 5 (in), 7 GND (power) hidden to GND, 9 (in), 10 (in), 11 (in), 12 (in), 13 (out), 14 VCC (power) hidden to VCC

## 4081
designator U?
footprint DIP-14
part A pins: 1 (in), 2 (in), 3 (out), 7 GND (power) hidden to GND, 14 VCC (power) hidden to VCC
part B pins: 4 (out), 5 (in), 6 (in), 7 GND (power) hidden to GND, 14 VCC (power) hidden to VCC
part C pins: 7 GND (power) hidden to GND, 8 (in), 9 (in), 10 (out), 14 VCC (power) hidden to VCC
part D pins: 7 GND (power) hidden to GND, 11 (out), 12 (in), 13 (in), 14 VCC (power) hidden to VCC

## 4082
designator U?
footprint DIP-14
part A pins: 1 (out), 2 (in), 3 (in), 4 (in), 5 (in), 7 GND (power) hidden to GND, 14 VCC (power) hidden to VCC
part B pins: 7 GND (power) hidden to GND, 9 (in), 10 (in), 11 (in), 12 (in), 13 (out), 14 VCC (power) hidden to VCC

## 4085
designator U?
footprint DIP-14
part A pins: 1 A0 (in), 2 A1 (in), 3 OA (out), 7 GND (power) hidden to GND, 10 A4 (in), 12 A2 (in), 13 A3 (in), 14 VCC (power) hidden to VCC
part B pins: 4 OB (out), 5 B0 (in), 6 B1 (in), 7 GND (power) hidden to GND, 8 B2 (in), 9 B3 (in), 11 B4 (in), 14 VCC (power) hidden to VCC

## 4086
designator U?
footprint DIP-14
pins: 1 I-0 (in), 2 I-1 (in), 3 O (out), 5 I-2 (in), 6 I-3 (in), 7 GND (power) hidden to GND, 8 I-4 (in), 9 I-5 (in), 10 I-8 (in), 11 I-9 (in), 12 I-6 (in), 13 I-7 (in), 14 VCC (power) hidden to VCC

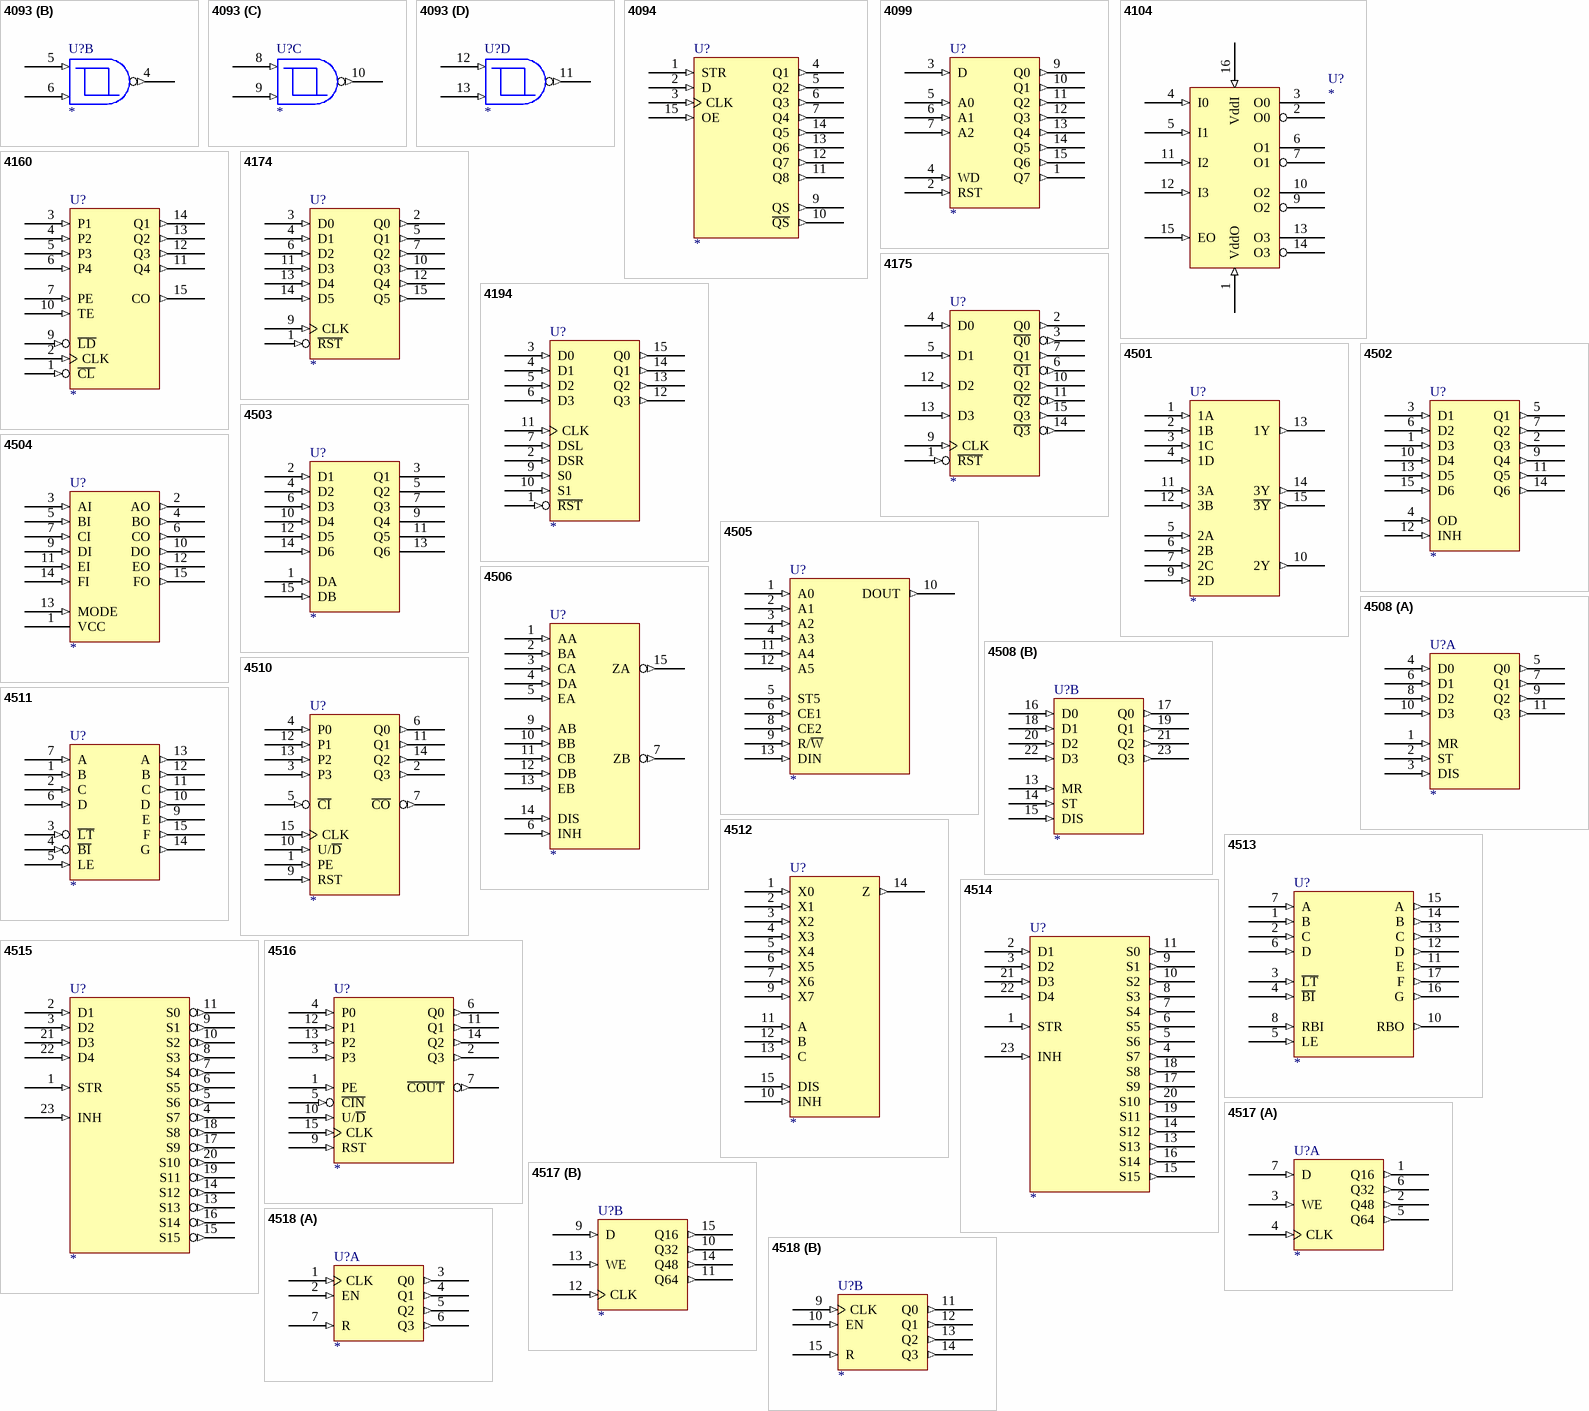
[diagram p15: symbols 4093 to 4518]

## 4093
designator U?
footprint DIP-14
part A pins: 1 (in), 2 (in), 3 (out), 7 GND (power) hidden to GND, 14 VCC (power) hidden to VCC
part B pins: 4 (out), 5 (in), 6 (in), 7 GND (power) hidden to GND, 14 VCC (power) hidden to VCC
part C pins: 7 GND (power) hidden to GND, 8 (in), 9 (in), 10 (out), 14 VCC (power) hidden to VCC
part D pins: 7 GND (power) hidden to GND, 11 (out), 12 (in), 13 (in), 14 VCC (power) hidden to VCC

## 4094
designator U?
footprint DIP-16
pins: 1 STR (in), 2 D (in), 3 CLK (in), 4 Q1 (out), 5 Q2 (out), 6 Q3 (out), 7 Q4 (out), 8 GND (power) hidden to GND, 9 QS (out), 10 ~{QS} (out), 11 Q8 (out), 12 Q7 (out), 13 Q6 (out), 14 Q5 (out), 15 OE (in), 16 VCC (power) hidden to VCC

## 4099
designator U?
footprint DIP-16
pins: 1 Q7 (out), 2 RST (in), 3 D (in), 4 WD (in), 5 A0 (in), 6 A1 (in), 7 A2 (in), 8 GND (power) hidden to GND, 9 Q0 (out), 10 Q1 (out), 11 Q2 (out), 12 Q3 (out), 13 Q4 (out), 14 Q5 (out), 15 Q6 (out), 16 VCC (power) hidden to VCC

## 4104
designator U?
footprint DIP-16
pins: 1 VddO (in), 2 O0 (hiz), 3 O0 (hiz), 4 I0 (in), 5 I1 (in), 6 O1 (hiz), 7 O1 (hiz), 8 GND (power) hidden to GND, 9 O2 (hiz), 10 O2 (hiz), 11 I2 (in), 12 I3 (in), 13 O3 (hiz), 14 O3 (hiz), 15 EO (in), 16 VddI (in)

## 4160
designator U?
footprint DIP-16
pins: 1 ~{CL} (in), 2 CLK (in), 3 P1 (in), 4 P2 (in), 5 P3 (in), 6 P4 (in), 7 PE (in), 8 GND (power) hidden to GND, 9 ~{LD} (in), 10 TE (in), 11 Q4 (out), 12 Q3 (out), 13 Q2 (out), 14 Q1 (out), 15 CO (out), 16 VCC (power) hidden to VCC

## 4174
designator U?
footprint DIP-16
pins: 1 ~{RST} (in), 2 Q0 (out), 3 D0 (in), 4 D1 (in), 5 Q1 (out), 6 D2 (in), 7 Q2 (out), 8 GND (power) hidden to GND, 9 CLK (in), 10 Q3 (out), 11 D3 (in), 12 Q4 (out), 13 D4 (in), 14 D5 (in), 15 Q5 (out), 16 VCC (power) hidden to VCC

## 4175
designator U?
footprint DIP-16
pins: 1 ~{RST} (in), 2 Q0 (out), 3 ~{Q0} (out), 4 D0 (in), 5 D1 (in), 6 ~{Q1} (out), 7 Q1 (out), 8 GND (power) hidden to GND, 9 CLK (in), 10 Q2 (out), 11 ~{Q2} (out), 12 D2 (in), 13 D3 (in), 14 ~{Q3} (out), 15 Q3 (out), 16 VCC (power) hidden to VCC

## 4194
designator U?
footprint DIP-16
pins: 1 ~{RST} (in), 2 DSR (in), 3 D0 (in), 4 D1 (in), 5 D2 (in), 6 D3 (in), 7 DSL (in), 8 GND (power) hidden to GND, 9 S0 (in), 10 S1 (in), 11 CLK (in), 12 Q3 (out), 13 Q2 (out), 14 Q1 (out), 15 Q0 (out), 16 VCC (power) hidden to VCC

## 4501
designator U?
footprint DIP-16
pins: 1 1A (in), 2 1B (in), 3 1C (in), 4 1D (in), 5 2A (in), 6 2B (in), 7 2C (in), 8 GND (power) hidden to GND, 9 2D (in), 10 2Y (out), 11 3A (in), 12 3B (in), 13 1Y (out), 14 3Y (out), 15 ~{3Y} (out), 16 VCC (power) hidden to VCC

## 4502
designator U?
footprint DIP-16
pins: 1 D3 (in), 2 Q3 (out), 3 D1 (in), 4 OD (in), 5 Q1 (out), 6 D2 (in), 7 Q2 (out), 8 GND (power) hidden to GND, 9 Q4 (out), 10 D4 (in), 11 Q5 (out), 12 INH (in), 13 D5 (in), 14 Q6 (out), 15 D6 (in), 16 VCC (power) hidden to VCC

## 4503
designator U?
footprint DIP-16
pins: 1 DA (in), 2 D1 (in), 3 Q1 (hiz), 4 D2 (in), 5 Q2 (hiz), 6 D3 (in), 7 Q3 (hiz), 8 GND (power) hidden to GND, 9 Q4 (hiz), 10 D4 (in), 11 Q5 (hiz), 12 D5 (in), 13 Q6 (hiz), 14 D6 (in), 15 DB (in), 16 VCC (power) hidden to VCC

## 4504
designator U?
footprint DIP-16
pins: 1 VCC (power), 2 AO (out), 3 AI (in), 4 BO (out), 5 BI (in), 6 CO (out), 7 CI (in), 8 GND (power) hidden to GND, 9 DI (in), 10 DO (out), 11 EI (in), 12 EO (out), 13 MODE (in), 14 FI (in), 15 FO (out), 16 VCC (power) hidden to VCC

## 4505
designator U?
footprint DIP-14
pins: 1 A0 (in), 2 A1 (in), 3 A2 (in), 4 A3 (in), 5 ST5 (in), 6 CE1 (in), 7 GND (power) hidden to GND, 8 CE2 (in), 9 R/~{W} (in), 10 DOUT (out), 11 A4 (in), 12 A5 (in), 13 DIN (in), 14 VCC (power) hidden to VCC

## 4506
designator U?
footprint DIP-16
pins: 1 AA (in), 2 BA (in), 3 CA (in), 4 DA (in), 5 EA (in), 6 INH (in), 7 ZB (out), 8 GND (power) hidden to GND, 9 AB (in), 10 BB (in), 11 CB (in), 12 DB (in), 13 EB (in), 14 DIS (in), 15 ZA (out), 16 VCC (power) hidden to VCC

## 4508
designator U?
footprint DIP-24
part A pins: 1 MR (in), 2 ST (in), 3 DIS (in), 4 D0 (in), 5 Q0 (out), 6 D1 (in), 7 Q1 (out), 8 D2 (in), 9 Q2 (out), 10 D3 (in), 11 Q3 (out), 12 GND (power) hidden to GND, 24 VCC (power) hidden to VCC
part B pins: 12 GND (power) hidden to GND, 13 MR (in), 14 ST (in), 15 DIS (in), 16 D0 (in), 17 Q0 (out), 18 D1 (in), 19 Q1 (out), 20 D2 (in), 21 Q2 (out), 22 D3 (in), 23 Q3 (out), 24 VCC (power) hidden to VCC

## 4510
designator U?
footprint DIP-16
pins: 1 PE (in), 2 Q3 (out), 3 P3 (in), 4 P0 (in), 5 ~{CI} (in), 6 Q0 (out), 7 ~{CO} (out), 8 GND (power) hidden to GND, 9 RST (in), 10 U/~{D} (in), 11 Q1 (out), 12 P1 (in), 13 P2 (in), 14 Q2 (out), 15 CLK (in), 16 VCC (power) hidden to VCC

## 4511
designator U?
footprint DIP-16
pins: 1 B (in), 2 C (in), 3 ~{LT} (in), 4 ~{BI} (in), 5 LE (in), 6 D (in), 7 A (in), 8 GND (power) hidden to GND, 9 E (out), 10 D (out), 11 C (out), 12 B (out), 13 A (out), 14 G (out), 15 F (out), 16 VCC (power) hidden to VCC

## 4512
designator U?
footprint DIP-16
pins: 1 X0 (in), 2 X1 (in), 3 X2 (in), 4 X3 (in), 5 X4 (in), 6 X5 (in), 7 X6 (in), 8 GND (power) hidden to GND, 9 X7 (in), 10 INH (in), 11 A (in), 12 B (in), 13 C (in), 14 Z (out), 15 DIS (in), 16 VCC (power) hidden to VCC

## 4513
designator U?
footprint DIP-18
pins: 1 B (in), 2 C (in), 3 ~{LT} (in), 4 ~{BI} (in), 5 LE (in), 6 D (in), 7 A (in), 8 RBI (in), 9 GND (power) hidden to GND, 10 RBO (out), 11 E (out), 12 D (out), 13 C (out), 14 B (out), 15 A (out), 16 G (out), 17 F (out), 18 VCC (power) hidden to VCC

## 4514
designator U?
footprint DIP-24
pins: 1 STR (in), 2 D1 (in), 3 D2 (in), 4 S7 (out), 5 S6 (out), 6 S5 (out), 7 S4 (out), 8 S3 (out), 9 S1 (out), 10 S2 (out), 11 S0 (out), 12 GND (power) hidden to GND, 13 S13 (out), 14 S12 (out), 15 S15 (out), 16 S14 (out), 17 S9 (out), 18 S8 (out), 19 S11 (out), 20 S10 (out), 21 D3 (in), 22 D4 (in), 23 INH (in), 24 VCC (power) hidden to VCC

## 4515
designator U?
footprint DIP-24
pins: 1 STR (in), 2 D1 (in), 3 D2 (in), 4 S7 (out), 5 S6 (out), 6 S5 (out), 7 S4 (out), 8 S3 (out), 9 S1 (out), 10 S2 (out), 11 S0 (out), 12 GND (power) hidden to GND, 13 S13 (out), 14 S12 (out), 15 S15 (out), 16 S14 (out), 17 S9 (out), 18 S8 (out), 19 S11 (out), 20 S10 (out), 21 D3 (in), 22 D4 (in), 23 INH (in), 24 VCC (power) hidden to VCC

## 4516
designator U?
footprint DIP-16
pins: 1 PE (in), 2 Q3 (out), 3 P3 (in), 4 P0 (in), 5 ~{CIN} (in), 6 Q0 (out), 7 ~{COUT} (out), 8 GND (power) hidden to GND, 9 RST (in), 10 U/~{D} (in), 11 Q1 (out), 12 P1 (in), 13 P2 (in), 14 Q2 (out), 15 CLK (in), 16 VCC (power) hidden to VCC

## 4517
designator U?
footprint DIP-16
part A pins: 1 Q16 (out), 2 Q48 (out), 3 WE (in), 4 CLK (in), 5 Q64 (out), 6 Q32 (out), 7 D (in), 8 GND (power) hidden to GND, 16 VCC (power) hidden to VCC
part B pins: 8 GND (power) hidden to GND, 9 D (in), 10 Q32 (out), 11 Q64 (out), 12 CLK (in), 13 WE (in), 14 Q48 (out), 15 Q16 (out), 16 VCC (power) hidden to VCC

## 4518
designator U?
footprint DIP-16
part A pins: 1 CLK (in), 2 EN (in), 3 Q0 (out), 4 Q1 (out), 5 Q2 (out), 6 Q3 (out), 7 R (in), 8 GND (power) hidden to GND, 16 VCC (power) hidden to VCC
part B pins: 8 GND (power) hidden to GND, 9 CLK (in), 10 EN (in), 11 Q0 (out), 12 Q1 (out), 13 Q2 (out), 14 Q3 (out), 15 R (in), 16 VCC (power) hidden to VCC

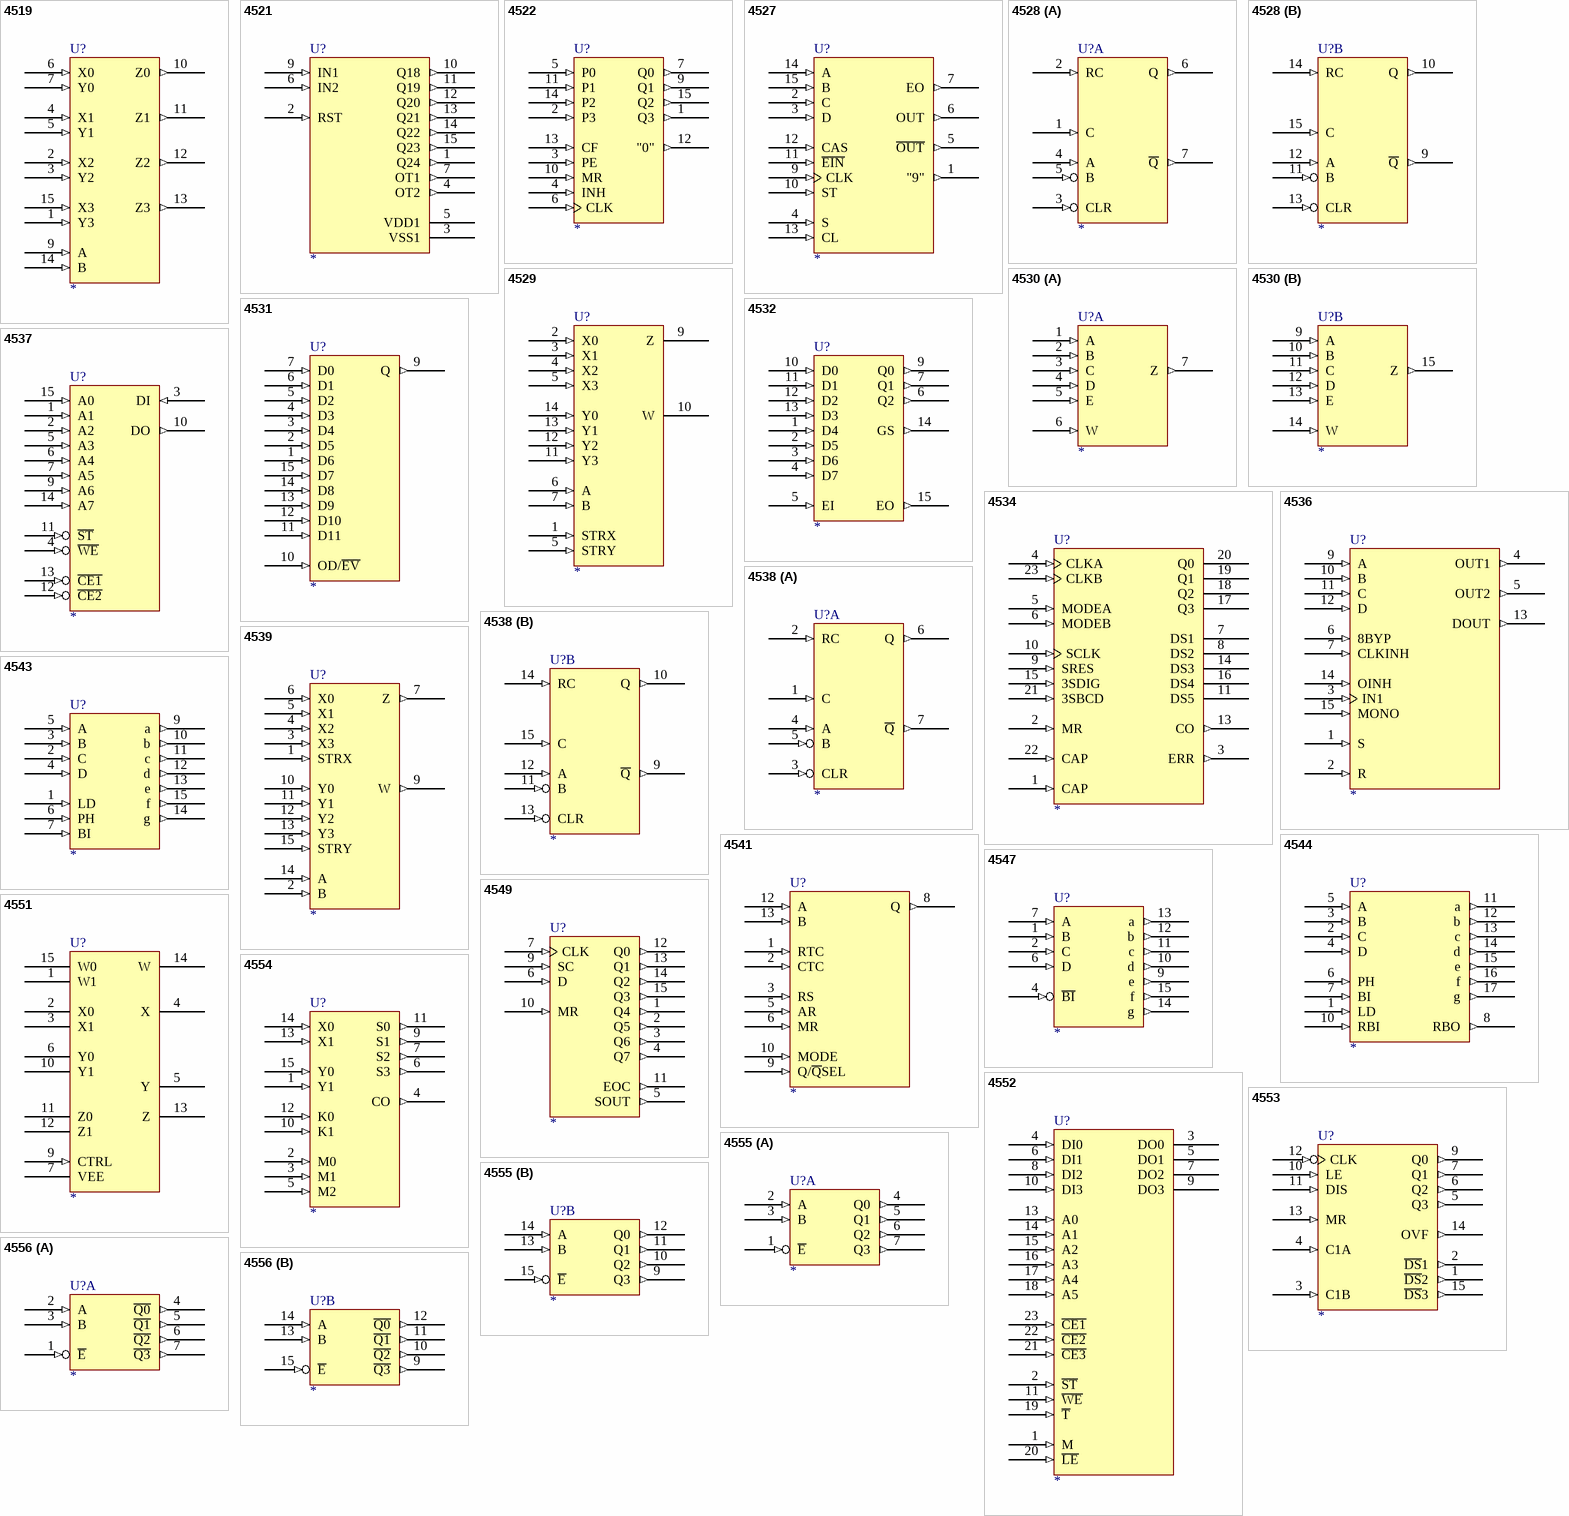
[diagram p16: symbols 4519 to 4556]

## 4519
designator U?
footprint DIP-16
pins: 1 Y3 (in), 2 X2 (in), 3 Y2 (in), 4 X1 (in), 5 Y1 (in), 6 X0 (in), 7 Y0 (in), 8 GND (power) hidden to GND, 9 A (in), 10 Z0 (out), 11 Z1 (out), 12 Z2 (out), 13 Z3 (out), 14 B (in), 15 X3 (in), 16 VCC (power) hidden to VCC

## 4521
designator U?
footprint DIP-16
pins: 1 Q24 (out), 2 RST (in), 3 VSS1 (power), 4 OT2 (out), 5 VDD1 (power), 6 IN2 (in), 7 OT1 (out), 8 GND (power) hidden to GND, 9 IN1 (in), 10 Q18 (out), 11 Q19 (out), 12 Q20 (out), 13 Q21 (out), 14 Q22 (out), 15 Q23 (out), 16 VCC (power) hidden to VCC

## 4522
designator U?
footprint DIP-16
pins: 1 Q3 (out), 2 P3 (in), 3 PE (in), 4 INH (in), 5 P0 (in), 6 CLK (in), 7 Q0 (out), 8 GND (power) hidden to GND, 9 Q1 (out), 10 MR (in), 11 P1 (in), 12 "0" (out), 13 CF (in), 14 P2 (in), 15 Q2 (out), 16 VCC (power) hidden to VCC

## 4527
designator U?
footprint DIP-16
pins: 1 "9" (out), 2 C (in), 3 D (in), 4 S (in), 5 ~{OUT} (out), 6 OUT (out), 7 EO (out), 8 GND (power) hidden to GND, 9 CLK (in), 10 ST (in), 11 ~{EIN} (in), 12 CAS (in), 13 CL (in), 14 A (in), 15 B (in), 16 VCC (power) hidden to VCC

## 4528
designator U?
footprint DIP-16
part A pins: 1 C (in), 2 RC (in), 3 CLR (in), 4 A (in), 5 B (in), 6 Q (out), 7 ~{Q} (out), 8 GND (power) hidden to GND, 16 VCC (power) hidden to VCC
part B pins: 8 GND (power) hidden to GND, 9 ~{Q} (out), 10 Q (out), 11 B (in), 12 A (in), 13 CLR (in), 14 RC (in), 15 C (in), 16 VCC (power) hidden to VCC

## 4529
designator U?
footprint DIP-16
pins: 1 STRX (in), 2 X0 (in), 3 X1 (in), 4 X2 (in), 5 X3 (in), 5 STRY (in), 6 A (in), 7 B (in), 8 GND (power) hidden to GND, 9 Z, 10 W, 11 Y3 (in), 12 Y2 (in), 13 Y1 (in), 14 Y0 (in), 16 VCC (power) hidden to VCC

## 4530
designator U?
footprint DIP-16
part A pins: 1 A (in), 2 B (in), 3 C (in), 4 D (in), 5 E (in), 6 W (in), 7 Z (out), 8 GND (power) hidden to GND, 16 VCC (power) hidden to VCC
part B pins: 8 GND (power) hidden to GND, 9 A (in), 10 B (in), 11 C (in), 12 D (in), 13 E (in), 14 W (in), 15 Z (out), 16 VCC (power) hidden to VCC

## 4531
designator U?
footprint DIP-16
pins: 1 D6 (in), 2 D5 (in), 3 D4 (in), 4 D3 (in), 5 D2 (in), 6 D1 (in), 7 D0 (in), 8 GND (power) hidden to GND, 9 Q (out), 10 OD/~{EV} (in), 11 D11 (in), 12 D10 (in), 13 D9 (in), 14 D8 (in), 15 D7 (in), 16 VCC (power) hidden to VCC

## 4532
designator U?
footprint DIP-16
pins: 1 D4 (in), 2 D5 (in), 3 D6 (in), 4 D7 (in), 5 EI (in), 6 Q2 (out), 7 Q1 (out), 8 GND (power) hidden to GND, 9 Q0 (out), 10 D0 (in), 11 D1 (in), 12 D2 (in), 13 D3 (in), 14 GS (out), 15 EO (out), 16 VCC (power) hidden to VCC

## 4534
designator U?
footprint DIP-24
pins: 1 CAP (in), 2 MR (in), 3 ERR (out), 4 CLKA (in), 5 MODEA (in), 6 MODEB (in), 7 DS1 (hiz), 8 DS2 (hiz), 9 SRES (in), 10 SCLK (in), 11 DS5 (hiz), 12 GND (power) hidden to GND, 13 CO (out), 14 DS3 (hiz), 15 3SDIG (in), 16 DS4 (hiz), 17 Q3 (hiz), 18 Q2 (hiz), 19 Q1 (hiz), 20 Q0 (hiz), 21 3SBCD (in), 22 CAP (in), 23 CLKB (in), 24 VCC (power) hidden to VCC

## 4536
designator U?
footprint DIP-16
pins: 1 S (in), 2 R (in), 3 IN1 (in), 4 OUT1 (out), 5 OUT2 (out), 6 8BYP (in), 7 CLKINH (in), 8 GND (power) hidden to GND, 9 A (in), 10 B (in), 11 C (in), 12 D (in), 13 DOUT (out), 14 OINH (in), 15 MONO (in), 16 VCC (power) hidden to VCC

## 4537
designator U?
footprint DIP-16
pins: 1 A1 (in), 2 A2 (in), 3 DI (in), 4 ~{WE} (in), 5 A3 (in), 6 A4 (in), 7 A5 (in), 8 GND (power) hidden to GND, 9 A6 (in), 10 DO (out), 11 ~{ST} (in), 12 ~{CE2} (in), 13 ~{CE1} (in), 14 A7 (in), 15 A0 (in), 16 VCC (power) hidden to VCC

## 4538
designator U?
footprint DIP-16
part A pins: 1 C (in), 2 RC (in), 3 CLR (in), 4 A (in), 5 B (in), 6 Q (out), 7 ~{Q} (out), 8 GND (power) hidden to GND, 16 VCC (power) hidden to VCC
part B pins: 8 GND (power) hidden to GND, 9 ~{Q} (out), 10 Q (out), 11 B (in), 12 A (in), 13 CLR (in), 14 RC (in), 15 C (in), 16 VCC (power) hidden to VCC

## 4539
designator U?
footprint DIP-16
pins: 1 STRX (in), 2 B (in), 3 X3 (in), 4 X2 (in), 5 X1 (in), 6 X0 (in), 7 Z (out), 8 GND (power) hidden to GND, 9 W (out), 10 Y0 (in), 11 Y1 (in), 12 Y2 (in), 13 Y3 (in), 14 A (in), 15 STRY (in), 16 VCC (power) hidden to VCC

## 4541
designator U?
footprint DIP-14
pins: 1 RTC (in), 2 CTC (in), 3 RS (in), 5 AR (in), 6 MR (in), 7 GND (power) hidden to GND, 8 Q (out), 9 Q/~{Q}SEL (in), 10 MODE (in), 12 A (in), 13 B (in), 14 VCC (power) hidden to VCC

## 4543
designator U?
footprint DIP-16
pins: 1 LD (in), 2 C (in), 3 B (in), 4 D (in), 5 A (in), 6 PH (in), 7 BI (in), 8 GND (power) hidden to GND, 9 a (out), 10 b (out), 11 c (out), 12 d (out), 13 e (out), 14 g (out), 15 f (out), 16 VCC (power) hidden to VCC

## 4544
designator U?
footprint DIP-18
pins: 1 LD (in), 2 C (in), 3 B (in), 4 D (in), 5 A (in), 6 PH (in), 7 BI (in), 8 RBO (out), 9 GND (power) hidden to GND, 10 RBI (in), 11 a (out), 12 b (out), 13 c (out), 14 d (out), 15 e (out), 16 f (out), 17 g (out), 18 VCC (power) hidden to VCC

## 4547
designator U?
footprint DIP-16
pins: 1 B (in), 2 C (in), 4 ~{BI} (in), 6 D (in), 7 A (in), 8 GND (power) hidden to GND, 9 e (out), 10 d (out), 11 c (out), 12 b (out), 13 a (out), 14 g (out), 15 f (out), 16 VCC (power) hidden to VCC

## 4549
designator U?
footprint DIP-16
pins: 1 Q4 (out), 2 Q5 (out), 3 Q6 (out), 4 Q7 (out), 5 SOUT (out), 6 D (in), 7 CLK (in), 8 GND (power) hidden to GND, 9 SC (in), 10 MR (in), 11 EOC (out), 12 Q0 (out), 13 Q1 (out), 14 Q2 (out), 15 Q3 (out), 16 VCC (power) hidden to VCC

## 4551
designator U?
footprint DIP-16
pins: 1 W1, 2 X0, 3 X1, 4 X, 5 Y, 6 Y0, 7 VEE, 8 GND (power) hidden to GND, 9 CTRL (in), 10 Y1, 11 Z0, 12 Z1, 13 Z, 14 W, 15 W0, 16 VCC (power) hidden to VCC

## 4552
designator U?
footprint DIP-24
pins: 1 M (in), 2 ~{ST} (in), 3 DO0 (hiz), 4 DI0 (in), 5 DO1 (hiz), 6 DI1 (in), 7 DO2 (hiz), 8 DI2 (in), 9 DO3 (hiz), 10 DI3 (in), 11 ~{WE} (in), 12 GND (power) hidden to GND, 13 A0 (in), 14 A1 (in), 15 A2 (in), 16 A3 (in), 17 A4 (in), 18 A5 (in), 19 ~{T} (in), 20 ~{LE} (in), 21 ~{CE3} (in), 22 ~{CE2} (in), 23 ~{CE1} (in), 24 VCC (power) hidden to VCC

## 4553
designator U?
footprint DIP-16
pins: 1 ~{DS}2 (out), 2 ~{DS}1 (out), 3 C1B (in), 4 C1A (in), 5 Q3 (out), 6 Q2 (out), 7 Q1 (out), 8 GND (power) hidden to GND, 9 Q0 (out), 10 LE (in), 11 DIS (in), 12 CLK (in), 13 MR (in), 14 OVF (out), 15 ~{DS}3 (out), 16 VCC (power) hidden to VCC

## 4554
designator U?
footprint DIP-16
pins: 1 Y1 (in), 2 M0 (in), 3 M1 (in), 4 CO (out), 5 M2 (in), 6 S3 (out), 7 S2 (out), 8 GND (power) hidden to GND, 9 S1 (out), 10 K1 (in), 11 S0 (out), 12 K0 (in), 13 X1 (in), 14 X0 (in), 15 Y0 (in), 16 VCC (power) hidden to VCC

## 4555
designator U?
footprint DIP-16
part A pins: 1 ~{E} (in), 2 A (in), 3 B (in), 4 Q0 (out), 5 Q1 (out), 6 Q2 (out), 7 Q3 (out), 8 GND (power) hidden to GND, 16 VCC (power) hidden to VCC
part B pins: 8 GND (power) hidden to GND, 9 Q3 (out), 10 Q2 (out), 11 Q1 (out), 12 Q0 (out), 13 B (in), 14 A (in), 15 ~{E} (in), 16 VCC (power) hidden to VCC

## 4556
designator U?
footprint DIP-16
part A pins: 1 ~{E} (in), 2 A (in), 3 B (in), 4 ~{Q0} (out), 5 ~{Q1} (out), 6 ~{Q2} (out), 7 ~{Q3} (out), 8 GND (power) hidden to GND, 16 VCC (power) hidden to VCC
part B pins: 8 GND (power) hidden to GND, 9 ~{Q3} (out), 10 ~{Q2} (out), 11 ~{Q1} (out), 12 ~{Q0} (out), 13 B (in), 14 A (in), 15 ~{E} (in), 16 VCC (power) hidden to VCC

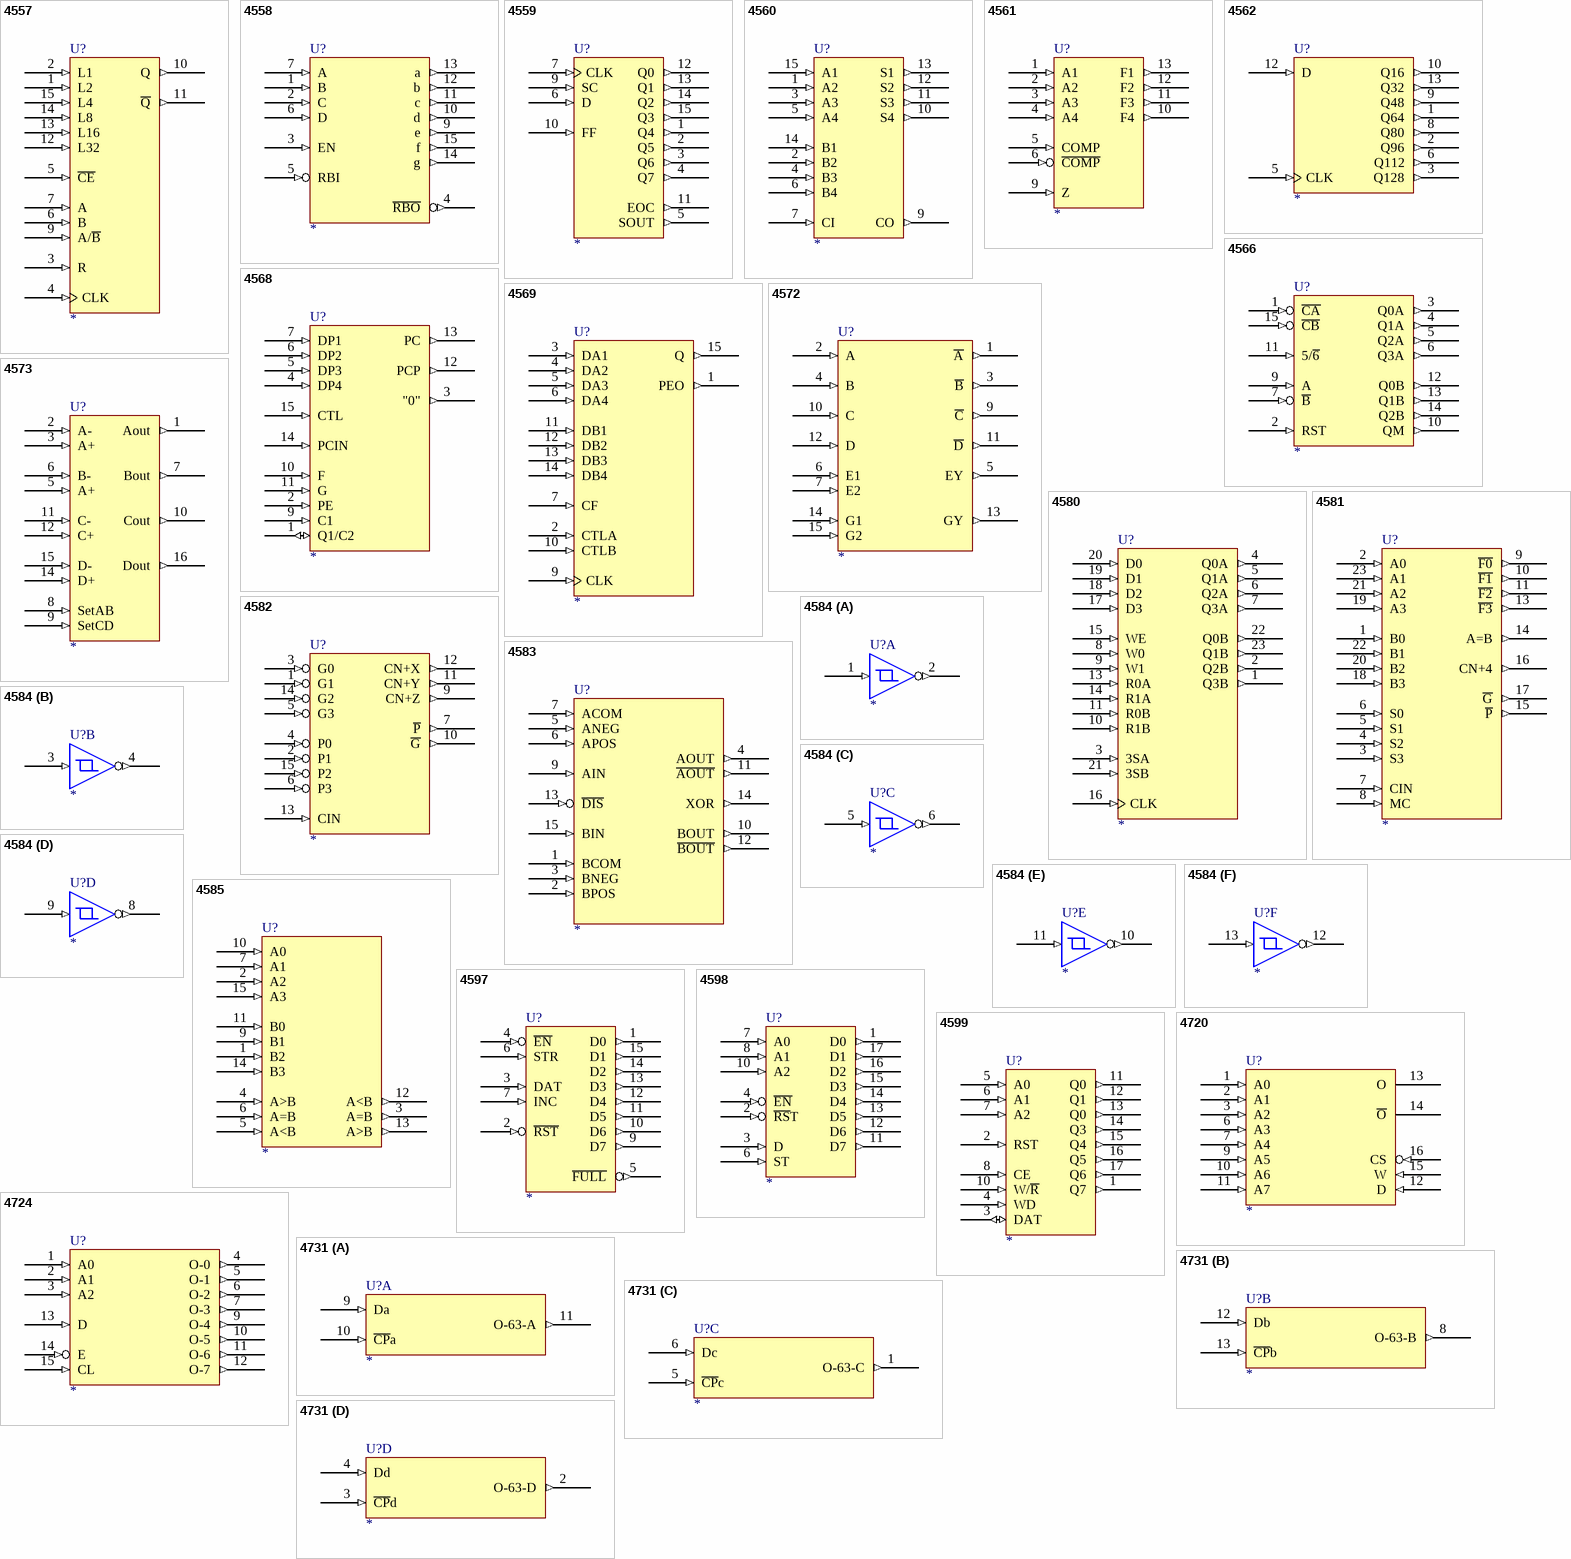
[diagram p17: symbols 4557 to 4731]

## 4557
designator U?
footprint DIP-16
pins: 1 L2 (in), 2 L1 (in), 3 R (in), 4 CLK (in), 5 ~{CE} (in), 6 B (in), 7 A (in), 8 GND (power) hidden to GND, 9 A/~{B} (in), 10 Q (out), 11 ~{Q} (out), 12 L32 (in), 13 L16 (in), 14 L8 (in), 15 L4 (in), 16 VCC (power) hidden to VCC

## 4558
designator U?
footprint DIP-16
pins: 1 B (in), 2 C (in), 3 EN (in), 4 ~{RBO} (out), 5 RBI (in), 6 D (in), 7 A (in), 8 GND (power) hidden to GND, 9 e (out), 10 d (out), 11 c (out), 12 b (out), 13 a (out), 14 g (out), 15 f (out), 16 VCC (power) hidden to VCC

## 4559
designator U?
footprint DIP-16
pins: 1 Q4 (out), 2 Q5 (out), 3 Q6 (out), 4 Q7 (out), 5 SOUT (out), 6 D (in), 7 CLK (in), 8 GND (power) hidden to GND, 9 SC (in), 10 FF (in), 11 EOC (out), 12 Q0 (out), 13 Q1 (out), 14 Q2 (out), 15 Q3 (out), 16 VCC (power) hidden to VCC

## 4560
designator U?
footprint DIP-16
pins: 1 A2 (in), 2 B2 (in), 3 A3 (in), 4 B3 (in), 5 A4 (in), 6 B4 (in), 7 CI (in), 8 GND (power) hidden to GND, 9 CO (out), 10 S4 (out), 11 S3 (out), 12 S2 (out), 13 S1 (out), 14 B1 (in), 15 A1 (in), 16 VCC (power) hidden to VCC

## 4561
designator U?
footprint DIP-14
pins: 1 A1 (in), 2 A2 (in), 3 A3 (in), 4 A4 (in), 5 COMP (in), 6 ~{COMP} (in), 7 GND (power) hidden to GND, 9 Z (in), 10 F4 (out), 11 F3 (out), 12 F2 (out), 13 F1 (out), 14 VCC (power) hidden to VCC

## 4562
designator U?
footprint DIP-14
pins: 1 Q64 (out), 2 Q96 (out), 3 Q128 (out), 5 CLK (in), 6 Q112 (out), 7 GND (power) hidden to GND, 8 Q80 (out), 9 Q48 (out), 10 Q16 (out), 12 D (in), 13 Q32 (out), 14 VCC (power) hidden to VCC

## 4566
designator U?
footprint DIP-16
pins: 1 ~{CA} (in), 2 RST (in), 3 Q0A (out), 4 Q1A (out), 5 Q2A (out), 6 Q3A (out), 7 ~{B} (in), 8 GND (power) hidden to GND, 9 A (in), 10 QM (out), 11 5/~{6} (in), 12 Q0B (out), 13 Q1B (out), 14 Q2B (out), 15 ~{CB} (in), 16 VCC (power) hidden to VCC

## 4568
designator U?
footprint DIP-16
pins: 1 Q1/C2 (io), 2 PE (in), 3 "0" (out), 4 DP4 (in), 5 DP3 (in), 6 DP2 (in), 7 DP1 (in), 8 GND (power) hidden to GND, 9 C1 (in), 10 F (in), 11 G (in), 12 PCP (out), 13 PC (out), 14 PCIN (in), 15 CTL (in), 16 VCC (power) hidden to VCC